# Altium integrated library Cypress PLD Delta39K.IntLib: 82 symbols (part 11 of 21)
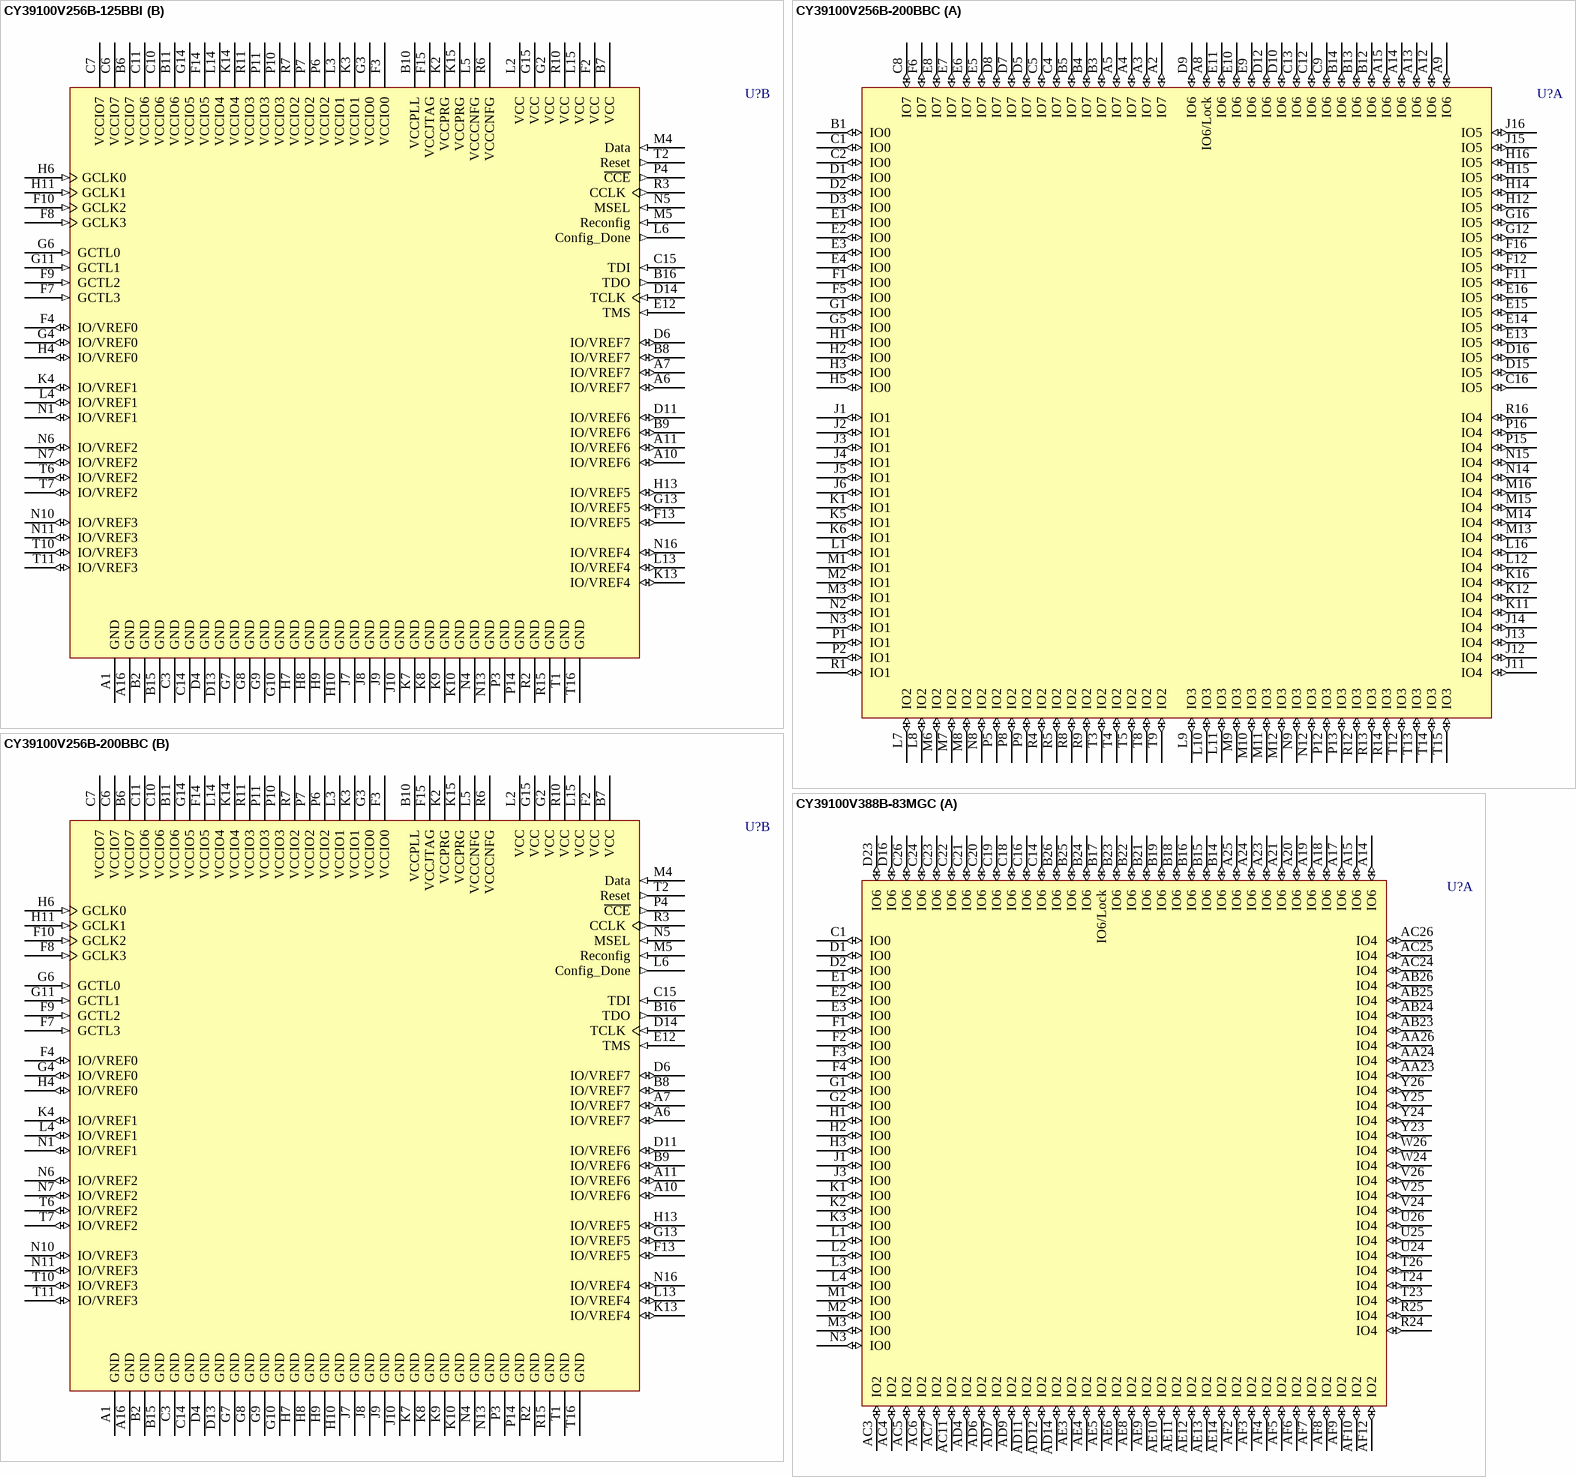
[diagram p88: symbols CY39100V256B-125BBI to CY39100V388B-83MGC]

## CY39100V256B-200BBC
designator U?
Delta39K ISR CPLD, 3.3V/2.5V, 100K Gates, 200 MHz, 256-Ball FBGA, Commercial Grade; Published: 6-Oct-2005; LatestRevisionDate: 13-Apr-2006; LatestRevisionNote: IPC-7351 Footprint Added.; DatasheetVersion: revI, Mar-2005; PackageVersion: revF, Oct-2003; PackageReference: BB256; Publisher: Altium Limited; PackageDescription: 256-Ball Fine Pitch Ball Grid Array 1 mm Pitch (37K & 39K CPLD Devices); Code_JEDEC: MO-192; ComponentLink1Description: Manufacturer Link; ComponentLink1URL: http://www.cypress.com/; ComponentLink2Description: Datasheet; ComponentLink2URL: http://www.cypress.com/portal/server.pt/gateway/PTARGS_0_601270_1522_209_0_43/http%3B/sjapp20.mis.cypress.com%3B7001/publishedcontent/publish/design_resources/datasheets/contents/cy39030v_5.pdf
footprint BB256 (BGA, 256-Leads, Body 17x17mm, Pitch 1mm)
3D model CY39100V256-BB256 (256-Ball Fine Pitch Ball Grid Array 1 mm Pitch (37K & 39K CPLD Devices))
part A pins: A2 IO7 (io), A3 IO7 (io), A4 IO7 (io), A5 IO7 (io), A8 IO6/Lock (io), A9 IO6 (io), A12 IO6 (io), A13 IO6 (io), A14 IO6 (io), A15 IO6 (io), B1 IO0 (io), B3 IO7 (io), B4 IO7 (io), B5 IO7 (io), B12 IO6 (io), B13 IO6 (io), B14 IO6 (io), C1 IO0 (io), C2 IO0 (io), C4 IO7 (io), C5 IO7 (io), C8 IO7 (io), C9 IO6 (io), C12 IO6 (io), C13 IO6 (io), C16 IO5 (io), D1 IO0 (io), D2 IO0 (io), D3 IO0 (io), D5 IO7 (io), D7 IO7 (io), D8 IO7 (io), D9 IO6 (io), D10 IO6 (io), D12 IO6 (io), D15 IO5 (io), D16 IO5 (io), E1 IO0 (io), E2 IO0 (io), E3 IO0 (io), E4 IO0 (io), E5 IO7 (io), E6 IO7 (io), E7 IO7 (io), E8 IO7 (io), E9 IO6 (io), E10 IO6 (io), E11 IO6 (io), E13 IO5 (io), E14 IO5 (io), E15 IO5 (io), E16 IO5 (io), F1 IO0 (io), F5 IO0 (io), F6 IO7 (io), F11 IO5 (io), F12 IO5 (io), F16 IO5 (io), G1 IO0 (io), G5 IO0 (io), G12 IO5 (io), G16 IO5 (io), H1 IO0 (io), H2 IO0 (io), H3 IO0 (io), H5 IO0 (io), H12 IO5 (io), H14 IO5 (io), H15 IO5 (io), H16 IO5 (io), J1 IO1 (io), J2 IO1 (io), J3 IO1 (io), J4 IO1 (io), J5 IO1 (io), J6 IO1 (io), J11 IO4 (io), J12 IO4 (io), J13 IO4 (io), J14 IO4 (io), J15 IO5 (io), J16 IO5 (io), K1 IO1 (io), K5 IO1 (io), K6 IO1 (io), K11 IO4 (io), K12 IO4 (io), K16 IO4 (io), L1 IO1 (io), L7 IO2 (io), L8 IO2 (io), L9 IO3 (io), L10 IO3 (io), L11 IO3 (io), L12 IO4 (io), L16 IO4 (io), M1 IO1 (io), M2 IO1 (io), M3 IO1 (io), M6 IO2 (io), M7 IO2 (io), M8 IO2 (io), M9 IO3 (io), M10 IO3 (io), M11 IO3 (io), M12 IO3 (io), M13 IO4 (io), M14 IO4 (io), M15 IO4 (io), M16 IO4 (io), N2 IO1 (io), N3 IO1 (io), N8 IO2 (io), N9 IO3 (io), N12 IO3 (io), N14 IO4 (io), N15 IO4 (io), P1 IO1 (io), P2 IO1 (io), P5 IO2 (io), P8 IO2 (io), P9 IO2 (io), P12 IO3 (io), P13 IO3 (io), P15 IO4 (io), P16 IO4 (io), R1 IO1 (io), R4 IO2 (io), R5 IO2 (io), R8 IO2 (io), R9 IO2 (io), R12 IO3 (io), R13 IO3 (io), R14 IO3 (io), R16 IO4 (io), T3 IO2 (io), T4 IO2 (io), T5 IO2 (io), T8 IO2 (io), T9 IO2 (io), T12 IO3 (io), T13 IO3 (io), T14 IO3 (io), T15 IO3 (io)
part B pins: A1 GND (power), A6 IO/VREF7 (io), A7 IO/VREF7 (io), A10 IO/VREF6 (io), A11 IO/VREF6 (io), A16 GND (power), B2 GND (power), B6 VCCIO7 (power), B7 VCC (power), B8 IO/VREF7 (io), B9 IO/VREF6 (io), B10 VCCPLL (power), B11 VCCIO6 (power), B15 GND (power), B16 TDO (out), C3 GND (power), C6 VCCIO7 (power), C7 VCCIO7 (power), C10 VCCIO6 (power), C11 VCCIO6 (power), C14 GND (power), C15 TDI (in), D4 GND (power), D6 IO/VREF7 (io), D11 IO/VREF6 (io), D13 GND (power), D14 TCLK (in), E12 TMS (in), F2 VCC (power), F3 VCCIO0 (power), F4 IO/VREF0 (io), F7 GCTL3 (in), F8 GCLK3 (in), F9 GCTL2 (in), F10 GCLK2 (in), F13 IO/VREF5 (io), F14 VCCIO5 (power), F15 VCCJTAG (power), G2 VCC (power), G3 VCCIO0 (power), G4 IO/VREF0 (io), G6 GCTL0 (in), G7 GND (power), G8 GND (power), G9 GND (power), G10 GND (power), G11 GCTL1 (in), G13 IO/VREF5 (io), G14 VCCIO5 (power), G15 VCC (power), H4 IO/VREF0 (io), H6 GCLK0 (in), H7 GND (power), H8 GND (power), H9 GND (power), H10 GND (power), H11 GCLK1 (in), H13 IO/VREF5 (io), J7 GND (power), J8 GND (power), J9 GND (power), J10 GND (power), K2 VCCPRG (power), K3 VCCIO1 (power), K4 IO/VREF1 (io), K7 GND (power), K8 GND (power), K9 GND (power), K10 GND (power), K13 IO/VREF4 (io), K14 VCCIO4 (power), K15 VCCPRG (power), L2 VCC (power), L3 VCCIO1 (power), L4 IO/VREF1 (io), L5 VCCCNFG (power), L6 Config_Done (out), L13 IO/VREF4 (io), L14 VCCIO4 (power), L15 VCC (power), M4 Data (in), M5 Reconfig (in), N1 IO/VREF1 (io), N4 GND (power), N5 MSEL (in), N6 IO/VREF2 (io), N7 IO/VREF2 (io), N10 IO/VREF3 (io), N11 IO/VREF3 (io), N13 GND (power), N16 IO/VREF4 (io), P3 GND (power), P4 ~{CCE} (out), P6 VCCIO2 (power), P7 VCCIO2 (power), P10 VCCIO3 (power), P11 VCCIO3 (power), P14 GND (power), R2 GND (power), R3 CCLK (out), R6 VCCCNFG (power), R7 VCCIO2 (power), R10 VCC (power), R11 VCCIO3 (power), R15 GND (power), T1 GND (power), T2 Reset (out), T6 IO/VREF2 (io), T7 IO/VREF2 (io), T10 IO/VREF3 (io), T11 IO/VREF3 (io), T16 GND (power)

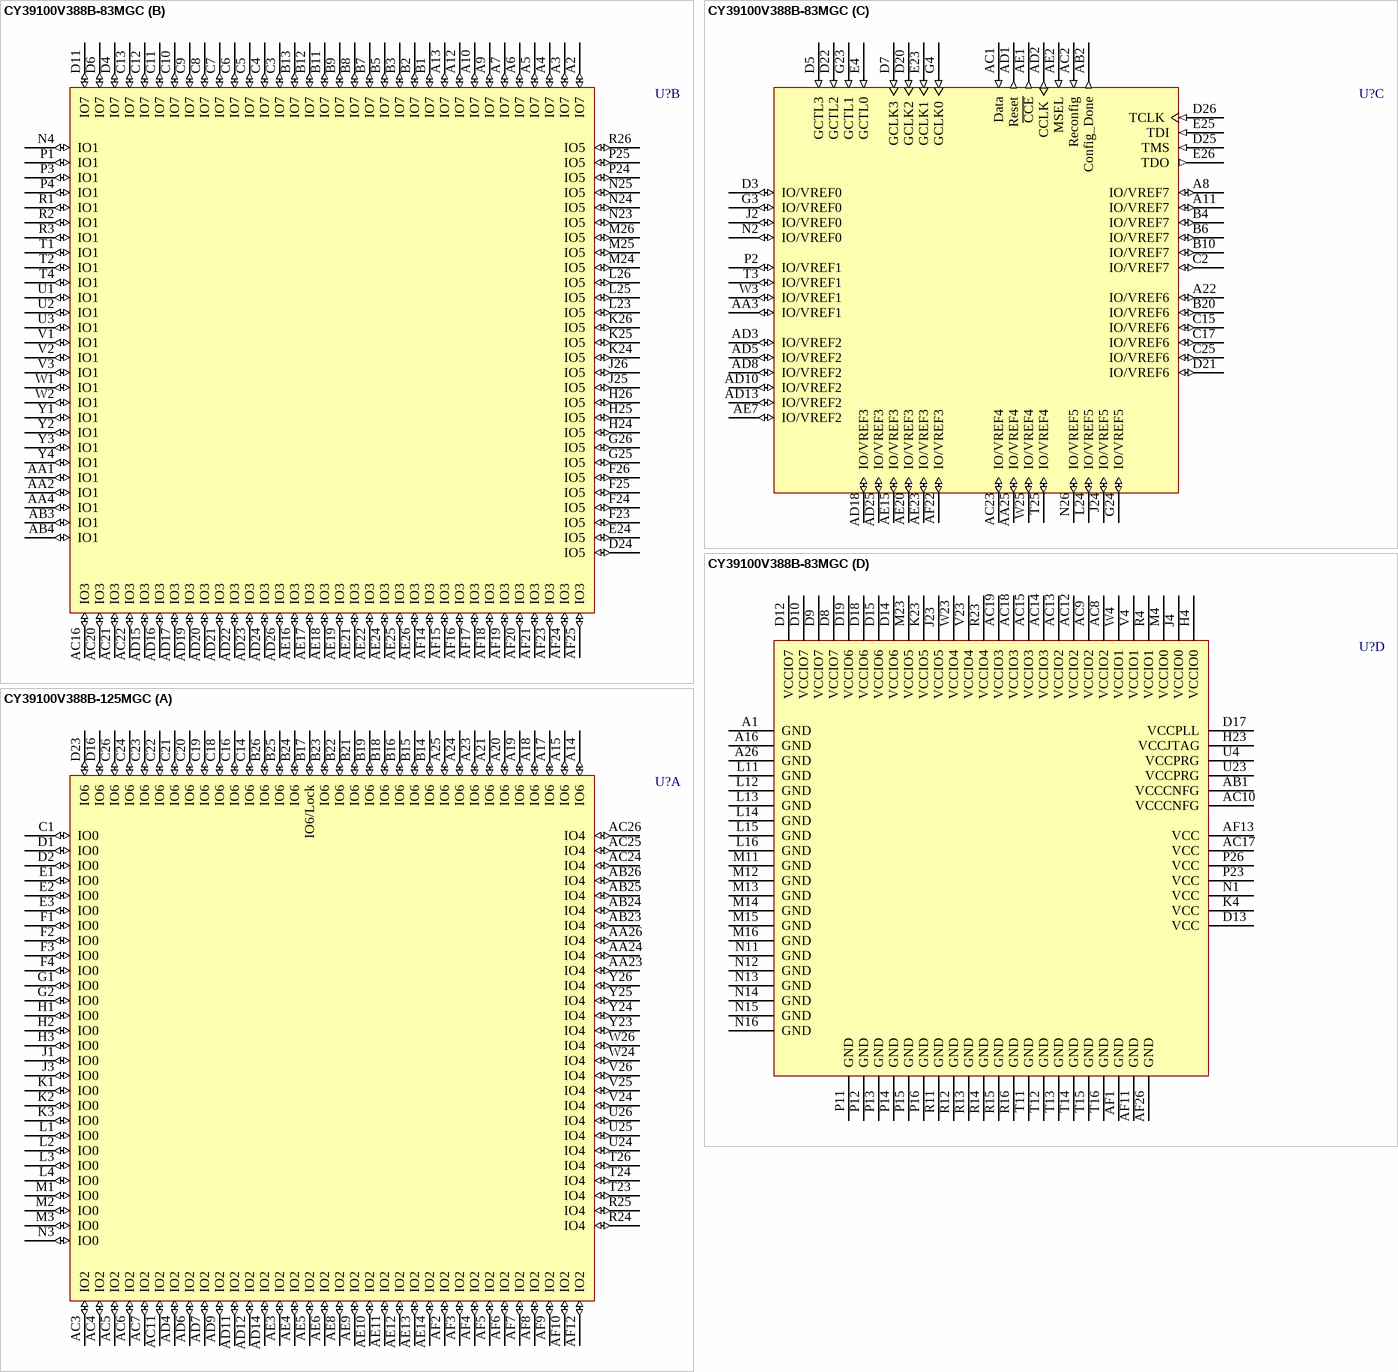
[diagram p32: symbols CY39100V388B-83MGC to CY39100V388B-125MGC]

## CY39100V388B-83MGC
designator U?
Delta39K ISR CPLD, 3.3V/2.5V, 100K Gates, 83 MHz, 388-Ball BGA, Commercial Grade; Published: 6-Oct-2005; LatestRevisionDate: 13-Apr-2006; LatestRevisionNote: IPC-7351 Footprint Added.; DatasheetVersion: revI, Mar-2005; PackageVersion: Mar-2005; PackageReference: MG388; Publisher: Altium Limited; PackageDescription: 388-Ball Ball Grid Array 1.27 mm Pitch; ComponentLink1Description: Manufacturer Link; ComponentLink1URL: http://www.cypress.com/; ComponentLink2Description: Datasheet; ComponentLink2URL: http://www.cypress.com/portal/server.pt/gateway/PTARGS_0_601270_1522_209_0_43/http%3B/sjapp20.mis.cypress.com%3B7001/publishedcontent/publish/design_resources/datasheets/contents/cy39030v_5.pdf
footprint MG388 (BGA, 388-Leads, Body 35x35mm, Pitch 1.27mm)
3D model CY39100V388-MG388 (388-Ball Ball Grid Array 1.27 mm Pitch)
part A pins: A14 IO6 (io) "IO for Bank 6", A15 IO6 (io) "IO for Bank 6", A17 IO6 (io) "IO for Bank 6", A18 IO6 (io) "IO for Bank 6", A19 IO6 (io) "IO for Bank 6", A20 IO6 (io) "IO for Bank 6", A21 IO6 (io) "IO for Bank 6", A23 IO6 (io) "IO for Bank 6", A24 IO6 (io) "IO for Bank 6", A25 IO6 (io) "IO for Bank 6", AA23 IO4 (io) "IO for Bank 4", AA24 IO4 (io) "IO for Bank 4", AA26 IO4 (io) "IO for Bank 4", AB23 IO4 (io) "IO for Bank 4", AB24 IO4 (io) "IO for Bank 4", AB25 IO4 (io) "IO for Bank 4", AB26 IO4 (io) "IO for Bank 4", AC3 IO2 (io) "IO for Bank 2", AC4 IO2 (io) "IO for Bank 2", AC5 IO2 (io) "IO for Bank 2", AC6 IO2 (io) "IO for Bank 2", AC7 IO2 (io) "IO for Bank 2", AC11 IO2 (io) "IO for Bank 2", AC24 IO4 (io) "IO for Bank 4", AC25 IO4 (io) "IO for Bank 4", AC26 IO4 (io) "IO for Bank 4", AD4 IO2 (io) "IO for Bank 2", AD6 IO2 (io) "IO for Bank 2", AD7 IO2 (io) "IO for Bank 2", AD9 IO2 (io) "IO for Bank 2", AD11 IO2 (io) "IO for Bank 2", AD12 IO2 (io) "IO for Bank 2", AD14 IO2 (io) "IO for Bank 2", AE3 IO2 (io) "IO for Bank 2", AE4 IO2 (io) "IO for Bank 2", AE5 IO2 (io) "IO for Bank 2", AE6 IO2 (io) "IO for Bank 2", AE8 IO2 (io) "IO for Bank 2", AE9 IO2 (io) "IO for Bank 2", AE10 IO2 (io) "IO for Bank 2", AE11 IO2 (io) "IO for Bank 2", AE12 IO2 (io) "IO for Bank 2", AE13 IO2 (io) "IO for Bank 2", AE14 IO2 (io) "IO for Bank 2", AF2 IO2 (io) "IO for Bank 2", AF3 IO2 (io) "IO for Bank 2", AF4 IO2 (io) "IO for Bank 2", AF5 IO2 (io) "IO for Bank 2", AF6 IO2 (io) "IO for Bank 2", AF7 IO2 (io) "IO for Bank 2", AF8 IO2 (io) "IO for Bank 2", AF9 IO2 (io) "IO for Bank 2", AF10 IO2 (io) "IO for Bank 2", AF12 IO2 (io) "IO for Bank 2", B14 IO6 (io) "IO for Bank 6", B15 IO6 (io) "IO for Bank 6", B16 IO6 (io) "IO for Bank 6", B17 IO6/Lock (io) "IO in Bank 6 or PLL lock output signal", B18 IO6 (io) "IO for Bank 6", B19 IO6 (io) "IO for Bank 6", B21 IO6 (io) "IO for Bank 6", B22 IO6 (io) "IO for Bank 6", B23 IO6 (io) "IO for Bank 6", B24 IO6 (io) "IO for Bank 6", B25 IO6 (io) "IO for Bank 6", B26 IO6 (io) "IO for Bank 6", C1 IO0 (io) "IO for Bank 0", C14 IO6 (io) "IO for Bank 6", C16 IO6 (io) "IO for Bank 6", C18 IO6 (io) "IO for Bank 6", C19 IO6 (io) "IO for Bank 6", C20 IO6 (io) "IO for Bank 6", C21 IO6 (io) "IO for Bank 6", C22 IO6 (io) "IO for Bank 6", C23 IO6 (io) "IO for Bank 6", C24 IO6 (io) "IO for Bank 6", C26 IO6 (io) "IO for Bank 6", D1 IO0 (io) "IO for Bank 0", D2 IO0 (io) "IO for Bank 0", D16 IO6 (io) "IO for Bank 6", D23 IO6 (io) "IO for Bank 6", E1 IO0 (io) "IO for Bank 0", E2 IO0 (io) "IO for Bank 0", E3 IO0 (io) "IO for Bank 0", F1 IO0 (io) "IO for Bank 0", F2 IO0 (io) "IO for Bank 0", F3 IO0 (io) "IO for Bank 0", F4 IO0 (io) "IO for Bank 0", G1 IO0 (io) "IO for Bank 0", G2 IO0 (io) "IO for Bank 0", H1 IO0 (io) "IO for Bank 0", H2 IO0 (io) "IO for Bank 0", H3 IO0 (io) "IO for Bank 0", J1 IO0 (io) "IO for Bank 0", J3 IO0 (io) "IO for Bank 0", K1 IO0 (io) "IO for Bank 0", K2 IO0 (io) "IO for Bank 0", K3 IO0 (io) "IO for Bank 0", L1 IO0 (io) "IO for Bank 0", L2 IO0 (io) "IO for Bank 0", L3 IO0 (io) "IO for Bank 0", L4 IO0 (io) "IO for Bank 0", M1 IO0 (io) "IO for Bank 0", M2 IO0 (io) "IO for Bank 0", M3 IO0 (io) "IO for Bank 0", N3 IO0 (io) "IO for Bank 0", R24 IO4 (io) "IO for Bank 4", R25 IO4 (io) "IO for Bank 4", T23 IO4 (io) "IO for Bank 4", T24 IO4 (io) "IO for Bank 4", T26 IO4 (io) "IO for Bank 4", U24 IO4 (io) "IO for Bank 4", U25 IO4 (io) "IO for Bank 4", U26 IO4 (io) "IO for Bank 4", V24 IO4 (io) "IO for Bank 4", V25 IO4 (io) "IO for Bank 4", V26 IO4 (io) "IO for Bank 4", W24 IO4 (io) "IO for Bank 4", W26 IO4 (io) "IO for Bank 4", Y23 IO4 (io) "IO for Bank 4", Y24 IO4 (io) "IO for Bank 4", Y25 IO4 (io) "IO for Bank 4", Y26 IO4 (io) "IO for Bank 4"
part B pins: A2 IO7 (io) "IO for Bank 7", A3 IO7 (io) "IO for Bank 7", A4 IO7 (io) "IO for Bank 7", A5 IO7 (io) "IO for Bank 7", A6 IO7 (io) "IO for Bank 7", A7 IO7 (io) "IO for Bank 7", A9 IO7 (io) "IO for Bank 7", A10 IO7 (io) "IO for Bank 7", A12 IO7 (io) "IO for Bank 7", A13 IO7 (io) "IO for Bank 7", AA1 IO1 (io) "IO for Bank 1", AA2 IO1 (io) "IO for Bank 1", AA4 IO1 (io) "IO for Bank 1", AB3 IO1 (io) "IO for Bank 1", AB4 IO1 (io) "IO for Bank 1", AC16 IO3 (io) "IO for Bank 3", AC20 IO3 (io) "IO for Bank 3", AC21 IO3 (io) "IO for Bank 3", AC22 IO3 (io) "IO for Bank 3", AD15 IO3 (io) "IO for Bank 3", AD16 IO3 (io) "IO for Bank 3", AD17 IO3 (io) "IO for Bank 3", AD19 IO3 (io) "IO for Bank 3", AD20 IO3 (io) "IO for Bank 3", AD21 IO3 (io) "IO for Bank 3", AD22 IO3 (io) "IO for Bank 3", AD23 IO3 (io) "IO for Bank 3", AD24 IO3 (io) "IO for Bank 3", AD26 IO3 (io) "IO for Bank 3", AE16 IO3 (io) "IO for Bank 3", AE17 IO3 (io) "IO for Bank 3", AE18 IO3 (io) "IO for Bank 3", AE19 IO3 (io) "IO for Bank 3", AE21 IO3 (io) "IO for Bank 3", AE22 IO3 (io) "IO for Bank 3", AE24 IO3 (io) "IO for Bank 3", AE25 IO3 (io) "IO for Bank 3", AE26 IO3 (io) "IO for Bank 3", AF14 IO3 (io) "IO for Bank 3", AF15 IO3 (io) "IO for Bank 3", AF16 IO3 (io) "IO for Bank 3", AF17 IO3 (io) "IO for Bank 3", AF18 IO3 (io) "IO for Bank 3", AF19 IO3 (io) "IO for Bank 3", AF20 IO3 (io) "IO for Bank 3", AF21 IO3 (io) "IO for Bank 3", AF23 IO3 (io) "IO for Bank 3", AF24 IO3 (io) "IO for Bank 3", AF25 IO3 (io) "IO for Bank 3", B1 IO7 (io) "IO for Bank 7", B2 IO7 (io) "IO for Bank 7", B3 IO7 (io) "IO for Bank 7", B5 IO7 (io) "IO for Bank 7", B7 IO7 (io) "IO for Bank 7", B8 IO7 (io) "IO for Bank 7", B9 IO7 (io) "IO for Bank 7", B11 IO7 (io) "IO for Bank 7", B12 IO7 (io) "IO for Bank 7", B13 IO7 (io) "IO for Bank 7", C3 IO7 (io) "IO for Bank 7", C4 IO7 (io) "IO for Bank 7", C5 IO7 (io) "IO for Bank 7", C6 IO7 (io) "IO for Bank 7", C7 IO7 (io) "IO for Bank 7", C8 IO7 (io) "IO for Bank 7", C9 IO7 (io) "IO for Bank 7", C10 IO7 (io) "IO for Bank 7", C11 IO7 (io) "IO for Bank 7", C12 IO7 (io) "IO for Bank 7", C13 IO7 (io) "IO for Bank 7", D4 IO7 (io) "IO for Bank 7", D6 IO7 (io) "IO for Bank 7", D11 IO7 (io) "IO for Bank 7", D24 IO5 (io) "IO for Bank 5", E24 IO5 (io) "IO for Bank 5", F23 IO5 (io) "IO for Bank 5", F24 IO5 (io) "IO for Bank 5", F25 IO5 (io) "IO for Bank 5", F26 IO5 (io) "IO for Bank 5", G25 IO5 (io) "IO for Bank 5", G26 IO5 (io) "IO for Bank 5", H24 IO5 (io) "IO for Bank 5", H25 IO5 (io) "IO for Bank 5", H26 IO5 (io) "IO for Bank 5", J25 IO5 (io) "IO for Bank 5", J26 IO5 (io) "IO for Bank 5", K24 IO5 (io) "IO for Bank 5", K25 IO5 (io) "IO for Bank 5", K26 IO5 (io) "IO for Bank 5", L23 IO5 (io) "IO for Bank 5", L25 IO5 (io) "IO for Bank 5", L26 IO5 (io) "IO for Bank 5", M24 IO5 (io) "IO for Bank 5", M25 IO5 (io) "IO for Bank 5", M26 IO5 (io) "IO for Bank 5", N4 IO1 (io) "IO for Bank 1", N23 IO5 (io) "IO for Bank 5", N24 IO5 (io) "IO for Bank 5", N25 IO5 (io) "IO for Bank 5", P1 IO1 (io) "IO for Bank 1", P3 IO1 (io) "IO for Bank 1", P4 IO1 (io) "IO for Bank 1", P24 IO5 (io) "IO for Bank 5", P25 IO5 (io) "IO for Bank 5", R1 IO1 (io) "IO for Bank 1", R2 IO1 (io) "IO for Bank 1", R3 IO1 (io) "IO for Bank 1", R26 IO5 (io) "IO for Bank 5", T1 IO1 (io) "IO for Bank 1", T2 IO1 (io) "IO for Bank 1", T4 IO1 (io) "IO for Bank 1", U1 IO1 (io) "IO for Bank 1", U2 IO1 (io) "IO for Bank 1", U3 IO1 (io) "IO for Bank 1", V1 IO1 (io) "IO for Bank 1", V2 IO1 (io) "IO for Bank 1", V3 IO1 (io) "IO for Bank 1", W1 IO1 (io) "IO for Bank 1", W2 IO1 (io) "IO for Bank 1", Y1 IO1 (io) "IO for Bank 1", Y2 IO1 (io) "IO for Bank 1", Y3 IO1 (io) "IO for Bank 1", Y4 IO1 (io) "IO for Bank 1"
part C pins: A8 IO/VREF7 (io) "IO or Reference Voltage for Bank 7", A11 IO/VREF7 (io) "IO or Reference Voltage for Bank 7", A22 IO/VREF6 (io) "IO or Reference Voltage for Bank 6", AA3 IO/VREF1 (io) "IO or Reference Voltage for Bank 1", AA25 IO/VREF4 (io) "IO or Reference Voltage for Bank 4", AB2 Config_Done (out) "Flag indicating that configuration is complete", AC1 Data (in) "Pin to receive configuration data from the external boot PROM", AC2 Reconfig (in) "Pin to start configuration of Delta39K", AC23 IO/VREF4 (io) "IO or Reference Voltage for Bank 4", AD1 Reset (out) "Reset signal to interface with the external boot PROM", AD2 CCLK (out) "Configuration Clock for serial interface with the external boot PROM", AD3 IO/VREF2 (io) "IO or Reference Voltage for Bank 2", AD5 IO/VREF2 (io) "IO or Reference Voltage for Bank 2", AD8 IO/VREF2 (io) "IO or Reference Voltage for Bank 2", AD10 IO/VREF2 (io) "IO or Reference Voltage for Bank 2", AD13 IO/VREF2 (io) "IO or Reference Voltage for Bank 2", AD18 IO/VREF3 (io) "IO or Reference Voltage for Bank 3", AD25 IO/VREF3 (io) "IO or Reference Voltage for Bank 3", AE1 ~{CCE} (out) "Chip select for the external boot PROM (active low)", AE2 MSEL (in) "Mode Select Pin", AE7 IO/VREF2 (io) "IO or Reference Voltage for Bank 2", AE15 IO/VREF3 (io) "IO or Reference Voltage for Bank 3", AE20 IO/VREF3 (io) "IO or Reference Voltage for Bank 3", AE23 IO/VREF3 (io) "IO or Reference Voltage for Bank 3", AF22 IO/VREF3 (io) "IO or Reference Voltage for Bank 3", B4 IO/VREF7 (io) "IO or Reference Voltage for Bank 7", B6 IO/VREF7 (io) "IO or Reference Voltage for Bank 7", B10 IO/VREF7 (io) "IO or Reference Voltage for Bank 7", B20 IO/VREF6 (io) "IO or Reference Voltage for Bank 6", C2 IO/VREF7 (io) "IO or Reference Voltage for Bank 7", C15 IO/VREF6 (io) "IO or Reference Voltage for Bank 6", C17 IO/VREF6 (io) "IO or Reference Voltage for Bank 6", C25 IO/VREF6 (io) "IO or Reference Voltage for Bank 6", D3 IO/VREF0 (io) "IO or Reference Voltage for Bank 0", D5 GCTL3 (in) "Global Control signal 3", D7 GCLK3 (in) "Global Clock signal 3", D20 GCLK2 (in) "Global Clock signal 2", D21 IO/VREF6 (io) "IO or Reference Voltage for Bank 6", D22 GCTL2 (in) "Global Control signal 2", D25 TMS (in) "JTAG Test Mode Select", D26 TCLK (in) "JTAG Test Clock", E4 GCTL0 (in) "Global Control signal 0", E23 GCLK1 (in) "Global Clock signal 1", E25 TDI (in) "JTAG Test Data In", E26 TDO (out) "JTAG Test Data Out", G3 IO/VREF0 (io) "IO or Reference Voltage for Bank 0", G4 GCLK0 (in) "Global Clock signal 0", G23 GCTL1 (in) "Global Control signal 1", G24 IO/VREF5 (io) "IO or Reference Voltage for Bank 5", J2 IO/VREF0 (io) "IO or Reference Voltage for Bank 0", J24 IO/VREF5 (io) "IO or Reference Voltage for Bank 5", L24 IO/VREF5 (io) "IO or Reference Voltage for Bank 5", N2 IO/VREF0 (io) "IO or Reference Voltage for Bank 0", N26 IO/VREF5 (io) "IO or Reference Voltage for Bank 5", P2 IO/VREF1 (io) "IO or Reference Voltage for Bank 1", T3 IO/VREF1 (io) "IO or Reference Voltage for Bank 1", T25 IO/VREF4 (io) "IO or Reference Voltage for Bank 4", W3 IO/VREF1 (io) "IO or Reference Voltage for Bank 1", W25 IO/VREF4 (io) "IO or Reference Voltage for Bank 4"
part D pins: A1 GND (power) "Ground", A16 GND (power) "Ground", A26 GND (power) "Ground", AB1 VCCCNFG (power) "VCC for Configuration port", AC8 VCCIO2 (power) "VCC for I/O bank 2", AC9 VCCIO2 (power) "VCC for I/O bank 2", AC10 VCCCNFG (power) "VCC for Configuration port", AC12 VCCIO2 (power) "VCC for I/O bank 2", AC13 VCCIO2 (power) "VCC for I/O bank 2", AC14 VCCIO3 (power) "VCC for I/O bank 3", AC15 VCCIO3 (power) "VCC for I/O bank 3", AC17 VCC (power) "Operating Voltage", AC18 VCCIO3 (power) "VCC for I/O bank 3", AC19 VCCIO3 (power) "VCC for I/O bank 3", AF1 GND (power) "Ground", AF11 GND (power) "Ground", AF13 VCC (power) "Operating Voltage", AF26 GND (power) "Ground", D8 VCCIO7 (power) "VCC for I/O bank 7", D9 VCCIO7 (power) "VCC for I/O bank 7", D10 VCCIO7 (power) "VCC for I/O bank 7", D12 VCCIO7 (power) "VCC for I/O bank 7", D13 VCC (power) "Operating Voltage", D14 VCCIO6 (power) "VCC for I/O bank 6", D15 VCCIO6 (power) "VCC for I/O bank 6", D17 VCCPLL (power) "VCC for PLL", D18 VCCIO6 (power) "VCC for I/O bank 6", D19 VCCIO6 (power) "VCC for I/O bank 6", H4 VCCIO0 (power) "VCC for I/O bank 0", H23 VCCJTAG (power) "VCC for JTAG pins", J4 VCCIO0 (power) "VCC for I/O bank 0", J23 VCCIO5 (power) "VCC for I/O bank 5", K4 VCC (power) "Operating Voltage", K23 VCCIO5 (power) "VCC for I/O bank 5", L11 GND (power) "Ground", L12 GND (power) "Ground", L13 GND (power) "Ground", L14 GND (power) "Ground", L15 GND (power) "Ground", L16 GND (power) "Ground", M4 VCCIO0 (power) "VCC for I/O bank 0", M11 GND (power) "Ground", M12 GND (power) "Ground", M13 GND (power) "Ground", M14 GND (power) "Ground", M15 GND (power) "Ground", M16 GND (power) "Ground", M23 VCCIO5 (power) "VCC for I/O bank 5", N1 VCC (power) "Operating Voltage", N11 GND (power) "Ground", N12 GND (power) "Ground", N13 GND (power) "Ground", N14 GND (power) "Ground", N15 GND (power) "Ground", N16 GND (power) "Ground", P11 GND (power) "Ground", P12 GND (power) "Ground", P13 GND (power) "Ground", P14 GND (power) "Ground", P15 GND (power) "Ground", P16 GND (power) "Ground", P23 VCC (power) "Operating Voltage", P26 VCC (power) "Operating Voltage", R4 VCCIO1 (power) "VCC for I/O bank 1", R11 GND (power) "Ground", R12 GND (power) "Ground", R13 GND (power) "Ground", R14 GND (power) "Ground", R15 GND (power) "Ground", R16 GND (power) "Ground", R23 VCCIO4 (power) "VCC for I/O bank 4", T11 GND (power) "Ground", T12 GND (power) "Ground", T13 GND (power) "Ground", T14 GND (power) "Ground", T15 GND (power) "Ground", T16 GND (power) "Ground", U4 VCCPRG (power) "VCC for programming Self-Boot solution embedded boot PROM", U23 VCCPRG (power) "VCC for programming Self-Boot solution embedded boot PROM", V4 VCCIO1 (power) "VCC for I/O bank 1", V23 VCCIO4 (power) "VCC for I/O bank 4", W4 VCCIO1 (power) "VCC for I/O bank 1", W23 VCCIO4 (power) "VCC for I/O bank 4"

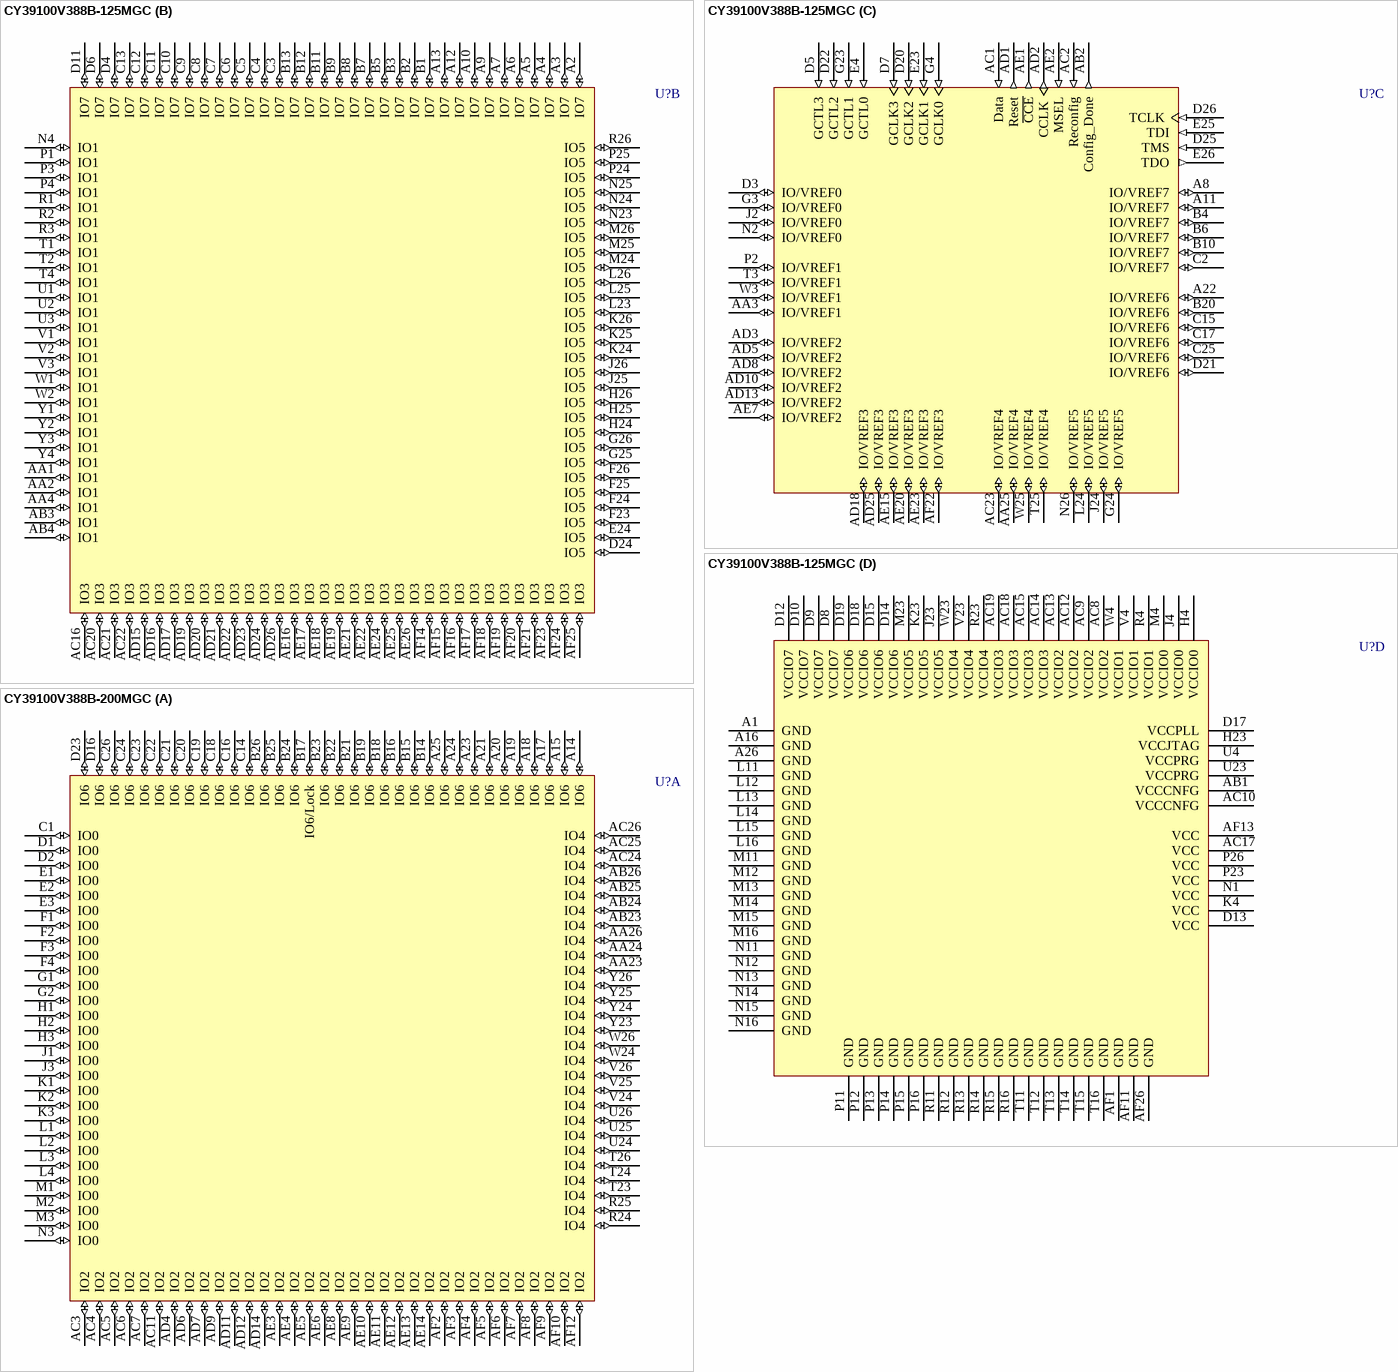
[diagram p33: symbols CY39100V388B-125MGC to CY39100V388B-200MGC]

## CY39100V388B-125MGC
designator U?
Delta39K ISR CPLD, 3.3V/2.5V, 100K Gates, 125 MHz, 388-Ball BGA, Commercial Grade; Published: 6-Oct-2005; LatestRevisionDate: 13-Apr-2006; LatestRevisionNote: IPC-7351 Footprint Added.; DatasheetVersion: revI, Mar-2005; PackageVersion: Mar-2005; PackageReference: MG388; Publisher: Altium Limited; PackageDescription: 388-Ball Ball Grid Array 1.27 mm Pitch; ComponentLink1Description: Manufacturer Link; ComponentLink1URL: http://www.cypress.com/; ComponentLink2Description: Datasheet; ComponentLink2URL: http://www.cypress.com/portal/server.pt/gateway/PTARGS_0_601270_1522_209_0_43/http%3B/sjapp20.mis.cypress.com%3B7001/publishedcontent/publish/design_resources/datasheets/contents/cy39030v_5.pdf
footprint MG388 (BGA, 388-Leads, Body 35x35mm, Pitch 1.27mm)
3D model CY39100V388-MG388 (388-Ball Ball Grid Array 1.27 mm Pitch)
part A pins: A14 IO6 (io) "IO for Bank 6", A15 IO6 (io) "IO for Bank 6", A17 IO6 (io) "IO for Bank 6", A18 IO6 (io) "IO for Bank 6", A19 IO6 (io) "IO for Bank 6", A20 IO6 (io) "IO for Bank 6", A21 IO6 (io) "IO for Bank 6", A23 IO6 (io) "IO for Bank 6", A24 IO6 (io) "IO for Bank 6", A25 IO6 (io) "IO for Bank 6", AA23 IO4 (io) "IO for Bank 4", AA24 IO4 (io) "IO for Bank 4", AA26 IO4 (io) "IO for Bank 4", AB23 IO4 (io) "IO for Bank 4", AB24 IO4 (io) "IO for Bank 4", AB25 IO4 (io) "IO for Bank 4", AB26 IO4 (io) "IO for Bank 4", AC3 IO2 (io) "IO for Bank 2", AC4 IO2 (io) "IO for Bank 2", AC5 IO2 (io) "IO for Bank 2", AC6 IO2 (io) "IO for Bank 2", AC7 IO2 (io) "IO for Bank 2", AC11 IO2 (io) "IO for Bank 2", AC24 IO4 (io) "IO for Bank 4", AC25 IO4 (io) "IO for Bank 4", AC26 IO4 (io) "IO for Bank 4", AD4 IO2 (io) "IO for Bank 2", AD6 IO2 (io) "IO for Bank 2", AD7 IO2 (io) "IO for Bank 2", AD9 IO2 (io) "IO for Bank 2", AD11 IO2 (io) "IO for Bank 2", AD12 IO2 (io) "IO for Bank 2", AD14 IO2 (io) "IO for Bank 2", AE3 IO2 (io) "IO for Bank 2", AE4 IO2 (io) "IO for Bank 2", AE5 IO2 (io) "IO for Bank 2", AE6 IO2 (io) "IO for Bank 2", AE8 IO2 (io) "IO for Bank 2", AE9 IO2 (io) "IO for Bank 2", AE10 IO2 (io) "IO for Bank 2", AE11 IO2 (io) "IO for Bank 2", AE12 IO2 (io) "IO for Bank 2", AE13 IO2 (io) "IO for Bank 2", AE14 IO2 (io) "IO for Bank 2", AF2 IO2 (io) "IO for Bank 2", AF3 IO2 (io) "IO for Bank 2", AF4 IO2 (io) "IO for Bank 2", AF5 IO2 (io) "IO for Bank 2", AF6 IO2 (io) "IO for Bank 2", AF7 IO2 (io) "IO for Bank 2", AF8 IO2 (io) "IO for Bank 2", AF9 IO2 (io) "IO for Bank 2", AF10 IO2 (io) "IO for Bank 2", AF12 IO2 (io) "IO for Bank 2", B14 IO6 (io) "IO for Bank 6", B15 IO6 (io) "IO for Bank 6", B16 IO6 (io) "IO for Bank 6", B17 IO6/Lock (io) "IO in Bank 6 or PLL lock output signal", B18 IO6 (io) "IO for Bank 6", B19 IO6 (io) "IO for Bank 6", B21 IO6 (io) "IO for Bank 6", B22 IO6 (io) "IO for Bank 6", B23 IO6 (io) "IO for Bank 6", B24 IO6 (io) "IO for Bank 6", B25 IO6 (io) "IO for Bank 6", B26 IO6 (io) "IO for Bank 6", C1 IO0 (io) "IO for Bank 0", C14 IO6 (io) "IO for Bank 6", C16 IO6 (io) "IO for Bank 6", C18 IO6 (io) "IO for Bank 6", C19 IO6 (io) "IO for Bank 6", C20 IO6 (io) "IO for Bank 6", C21 IO6 (io) "IO for Bank 6", C22 IO6 (io) "IO for Bank 6", C23 IO6 (io) "IO for Bank 6", C24 IO6 (io) "IO for Bank 6", C26 IO6 (io) "IO for Bank 6", D1 IO0 (io) "IO for Bank 0", D2 IO0 (io) "IO for Bank 0", D16 IO6 (io) "IO for Bank 6", D23 IO6 (io) "IO for Bank 6", E1 IO0 (io) "IO for Bank 0", E2 IO0 (io) "IO for Bank 0", E3 IO0 (io) "IO for Bank 0", F1 IO0 (io) "IO for Bank 0", F2 IO0 (io) "IO for Bank 0", F3 IO0 (io) "IO for Bank 0", F4 IO0 (io) "IO for Bank 0", G1 IO0 (io) "IO for Bank 0", G2 IO0 (io) "IO for Bank 0", H1 IO0 (io) "IO for Bank 0", H2 IO0 (io) "IO for Bank 0", H3 IO0 (io) "IO for Bank 0", J1 IO0 (io) "IO for Bank 0", J3 IO0 (io) "IO for Bank 0", K1 IO0 (io) "IO for Bank 0", K2 IO0 (io) "IO for Bank 0", K3 IO0 (io) "IO for Bank 0", L1 IO0 (io) "IO for Bank 0", L2 IO0 (io) "IO for Bank 0", L3 IO0 (io) "IO for Bank 0", L4 IO0 (io) "IO for Bank 0", M1 IO0 (io) "IO for Bank 0", M2 IO0 (io) "IO for Bank 0", M3 IO0 (io) "IO for Bank 0", N3 IO0 (io) "IO for Bank 0", R24 IO4 (io) "IO for Bank 4", R25 IO4 (io) "IO for Bank 4", T23 IO4 (io) "IO for Bank 4", T24 IO4 (io) "IO for Bank 4", T26 IO4 (io) "IO for Bank 4", U24 IO4 (io) "IO for Bank 4", U25 IO4 (io) "IO for Bank 4", U26 IO4 (io) "IO for Bank 4", V24 IO4 (io) "IO for Bank 4", V25 IO4 (io) "IO for Bank 4", V26 IO4 (io) "IO for Bank 4", W24 IO4 (io) "IO for Bank 4", W26 IO4 (io) "IO for Bank 4", Y23 IO4 (io) "IO for Bank 4", Y24 IO4 (io) "IO for Bank 4", Y25 IO4 (io) "IO for Bank 4", Y26 IO4 (io) "IO for Bank 4"
part B pins: A2 IO7 (io) "IO for Bank 7", A3 IO7 (io) "IO for Bank 7", A4 IO7 (io) "IO for Bank 7", A5 IO7 (io) "IO for Bank 7", A6 IO7 (io) "IO for Bank 7", A7 IO7 (io) "IO for Bank 7", A9 IO7 (io) "IO for Bank 7", A10 IO7 (io) "IO for Bank 7", A12 IO7 (io) "IO for Bank 7", A13 IO7 (io) "IO for Bank 7", AA1 IO1 (io) "IO for Bank 1", AA2 IO1 (io) "IO for Bank 1", AA4 IO1 (io) "IO for Bank 1", AB3 IO1 (io) "IO for Bank 1", AB4 IO1 (io) "IO for Bank 1", AC16 IO3 (io) "IO for Bank 3", AC20 IO3 (io) "IO for Bank 3", AC21 IO3 (io) "IO for Bank 3", AC22 IO3 (io) "IO for Bank 3", AD15 IO3 (io) "IO for Bank 3", AD16 IO3 (io) "IO for Bank 3", AD17 IO3 (io) "IO for Bank 3", AD19 IO3 (io) "IO for Bank 3", AD20 IO3 (io) "IO for Bank 3", AD21 IO3 (io) "IO for Bank 3", AD22 IO3 (io) "IO for Bank 3", AD23 IO3 (io) "IO for Bank 3", AD24 IO3 (io) "IO for Bank 3", AD26 IO3 (io) "IO for Bank 3", AE16 IO3 (io) "IO for Bank 3", AE17 IO3 (io) "IO for Bank 3", AE18 IO3 (io) "IO for Bank 3", AE19 IO3 (io) "IO for Bank 3", AE21 IO3 (io) "IO for Bank 3", AE22 IO3 (io) "IO for Bank 3", AE24 IO3 (io) "IO for Bank 3", AE25 IO3 (io) "IO for Bank 3", AE26 IO3 (io) "IO for Bank 3", AF14 IO3 (io) "IO for Bank 3", AF15 IO3 (io) "IO for Bank 3", AF16 IO3 (io) "IO for Bank 3", AF17 IO3 (io) "IO for Bank 3", AF18 IO3 (io) "IO for Bank 3", AF19 IO3 (io) "IO for Bank 3", AF20 IO3 (io) "IO for Bank 3", AF21 IO3 (io) "IO for Bank 3", AF23 IO3 (io) "IO for Bank 3", AF24 IO3 (io) "IO for Bank 3", AF25 IO3 (io) "IO for Bank 3", B1 IO7 (io) "IO for Bank 7", B2 IO7 (io) "IO for Bank 7", B3 IO7 (io) "IO for Bank 7", B5 IO7 (io) "IO for Bank 7", B7 IO7 (io) "IO for Bank 7", B8 IO7 (io) "IO for Bank 7", B9 IO7 (io) "IO for Bank 7", B11 IO7 (io) "IO for Bank 7", B12 IO7 (io) "IO for Bank 7", B13 IO7 (io) "IO for Bank 7", C3 IO7 (io) "IO for Bank 7", C4 IO7 (io) "IO for Bank 7", C5 IO7 (io) "IO for Bank 7", C6 IO7 (io) "IO for Bank 7", C7 IO7 (io) "IO for Bank 7", C8 IO7 (io) "IO for Bank 7", C9 IO7 (io) "IO for Bank 7", C10 IO7 (io) "IO for Bank 7", C11 IO7 (io) "IO for Bank 7", C12 IO7 (io) "IO for Bank 7", C13 IO7 (io) "IO for Bank 7", D4 IO7 (io) "IO for Bank 7", D6 IO7 (io) "IO for Bank 7", D11 IO7 (io) "IO for Bank 7", D24 IO5 (io) "IO for Bank 5", E24 IO5 (io) "IO for Bank 5", F23 IO5 (io) "IO for Bank 5", F24 IO5 (io) "IO for Bank 5", F25 IO5 (io) "IO for Bank 5", F26 IO5 (io) "IO for Bank 5", G25 IO5 (io) "IO for Bank 5", G26 IO5 (io) "IO for Bank 5", H24 IO5 (io) "IO for Bank 5", H25 IO5 (io) "IO for Bank 5", H26 IO5 (io) "IO for Bank 5", J25 IO5 (io) "IO for Bank 5", J26 IO5 (io) "IO for Bank 5", K24 IO5 (io) "IO for Bank 5", K25 IO5 (io) "IO for Bank 5", K26 IO5 (io) "IO for Bank 5", L23 IO5 (io) "IO for Bank 5", L25 IO5 (io) "IO for Bank 5", L26 IO5 (io) "IO for Bank 5", M24 IO5 (io) "IO for Bank 5", M25 IO5 (io) "IO for Bank 5", M26 IO5 (io) "IO for Bank 5", N4 IO1 (io) "IO for Bank 1", N23 IO5 (io) "IO for Bank 5", N24 IO5 (io) "IO for Bank 5", N25 IO5 (io) "IO for Bank 5", P1 IO1 (io) "IO for Bank 1", P3 IO1 (io) "IO for Bank 1", P4 IO1 (io) "IO for Bank 1", P24 IO5 (io) "IO for Bank 5", P25 IO5 (io) "IO for Bank 5", R1 IO1 (io) "IO for Bank 1", R2 IO1 (io) "IO for Bank 1", R3 IO1 (io) "IO for Bank 1", R26 IO5 (io) "IO for Bank 5", T1 IO1 (io) "IO for Bank 1", T2 IO1 (io) "IO for Bank 1", T4 IO1 (io) "IO for Bank 1", U1 IO1 (io) "IO for Bank 1", U2 IO1 (io) "IO for Bank 1", U3 IO1 (io) "IO for Bank 1", V1 IO1 (io) "IO for Bank 1", V2 IO1 (io) "IO for Bank 1", V3 IO1 (io) "IO for Bank 1", W1 IO1 (io) "IO for Bank 1", W2 IO1 (io) "IO for Bank 1", Y1 IO1 (io) "IO for Bank 1", Y2 IO1 (io) "IO for Bank 1", Y3 IO1 (io) "IO for Bank 1", Y4 IO1 (io) "IO for Bank 1"
part C pins: A8 IO/VREF7 (io) "IO or Reference Voltage for Bank 7", A11 IO/VREF7 (io) "IO or Reference Voltage for Bank 7", A22 IO/VREF6 (io) "IO or Reference Voltage for Bank 6", AA3 IO/VREF1 (io) "IO or Reference Voltage for Bank 1", AA25 IO/VREF4 (io) "IO or Reference Voltage for Bank 4", AB2 Config_Done (out) "Flag indicating that configuration is complete", AC1 Data (in) "Pin to receive configuration data from the external boot PROM", AC2 Reconfig (in) "Pin to start configuration of Delta39K", AC23 IO/VREF4 (io) "IO or Reference Voltage for Bank 4", AD1 Reset (out) "Reset signal to interface with the external boot PROM", AD2 CCLK (out) "Configuration Clock for serial interface with the external boot PROM", AD3 IO/VREF2 (io) "IO or Reference Voltage for Bank 2", AD5 IO/VREF2 (io) "IO or Reference Voltage for Bank 2", AD8 IO/VREF2 (io) "IO or Reference Voltage for Bank 2", AD10 IO/VREF2 (io) "IO or Reference Voltage for Bank 2", AD13 IO/VREF2 (io) "IO or Reference Voltage for Bank 2", AD18 IO/VREF3 (io) "IO or Reference Voltage for Bank 3", AD25 IO/VREF3 (io) "IO or Reference Voltage for Bank 3", AE1 ~{CCE} (out) "Chip select for the external boot PROM (active low)", AE2 MSEL (in) "Mode Select Pin", AE7 IO/VREF2 (io) "IO or Reference Voltage for Bank 2", AE15 IO/VREF3 (io) "IO or Reference Voltage for Bank 3", AE20 IO/VREF3 (io) "IO or Reference Voltage for Bank 3", AE23 IO/VREF3 (io) "IO or Reference Voltage for Bank 3", AF22 IO/VREF3 (io) "IO or Reference Voltage for Bank 3", B4 IO/VREF7 (io) "IO or Reference Voltage for Bank 7", B6 IO/VREF7 (io) "IO or Reference Voltage for Bank 7", B10 IO/VREF7 (io) "IO or Reference Voltage for Bank 7", B20 IO/VREF6 (io) "IO or Reference Voltage for Bank 6", C2 IO/VREF7 (io) "IO or Reference Voltage for Bank 7", C15 IO/VREF6 (io) "IO or Reference Voltage for Bank 6", C17 IO/VREF6 (io) "IO or Reference Voltage for Bank 6", C25 IO/VREF6 (io) "IO or Reference Voltage for Bank 6", D3 IO/VREF0 (io) "IO or Reference Voltage for Bank 0", D5 GCTL3 (in) "Global Control signal 3", D7 GCLK3 (in) "Global Clock signal 3", D20 GCLK2 (in) "Global Clock signal 2", D21 IO/VREF6 (io) "IO or Reference Voltage for Bank 6", D22 GCTL2 (in) "Global Control signal 2", D25 TMS (in) "JTAG Test Mode Select", D26 TCLK (in) "JTAG Test Clock", E4 GCTL0 (in) "Global Control signal 0", E23 GCLK1 (in) "Global Clock signal 1", E25 TDI (in) "JTAG Test Data In", E26 TDO (out) "JTAG Test Data Out", G3 IO/VREF0 (io) "IO or Reference Voltage for Bank 0", G4 GCLK0 (in) "Global Clock signal 0", G23 GCTL1 (in) "Global Control signal 1", G24 IO/VREF5 (io) "IO or Reference Voltage for Bank 5", J2 IO/VREF0 (io) "IO or Reference Voltage for Bank 0", J24 IO/VREF5 (io) "IO or Reference Voltage for Bank 5", L24 IO/VREF5 (io) "IO or Reference Voltage for Bank 5", N2 IO/VREF0 (io) "IO or Reference Voltage for Bank 0", N26 IO/VREF5 (io) "IO or Reference Voltage for Bank 5", P2 IO/VREF1 (io) "IO or Reference Voltage for Bank 1", T3 IO/VREF1 (io) "IO or Reference Voltage for Bank 1", T25 IO/VREF4 (io) "IO or Reference Voltage for Bank 4", W3 IO/VREF1 (io) "IO or Reference Voltage for Bank 1", W25 IO/VREF4 (io) "IO or Reference Voltage for Bank 4"
part D pins: A1 GND (power) "Ground", A16 GND (power) "Ground", A26 GND (power) "Ground", AB1 VCCCNFG (power) "VCC for Configuration port", AC8 VCCIO2 (power) "VCC for I/O bank 2", AC9 VCCIO2 (power) "VCC for I/O bank 2", AC10 VCCCNFG (power) "VCC for Configuration port", AC12 VCCIO2 (power) "VCC for I/O bank 2", AC13 VCCIO2 (power) "VCC for I/O bank 2", AC14 VCCIO3 (power) "VCC for I/O bank 3", AC15 VCCIO3 (power) "VCC for I/O bank 3", AC17 VCC (power) "Operating Voltage", AC18 VCCIO3 (power) "VCC for I/O bank 3", AC19 VCCIO3 (power) "VCC for I/O bank 3", AF1 GND (power) "Ground", AF11 GND (power) "Ground", AF13 VCC (power) "Operating Voltage", AF26 GND (power) "Ground", D8 VCCIO7 (power) "VCC for I/O bank 7", D9 VCCIO7 (power) "VCC for I/O bank 7", D10 VCCIO7 (power) "VCC for I/O bank 7", D12 VCCIO7 (power) "VCC for I/O bank 7", D13 VCC (power) "Operating Voltage", D14 VCCIO6 (power) "VCC for I/O bank 6", D15 VCCIO6 (power) "VCC for I/O bank 6", D17 VCCPLL (power) "VCC for PLL", D18 VCCIO6 (power) "VCC for I/O bank 6", D19 VCCIO6 (power) "VCC for I/O bank 6", H4 VCCIO0 (power) "VCC for I/O bank 0", H23 VCCJTAG (power) "VCC for JTAG pins", J4 VCCIO0 (power) "VCC for I/O bank 0", J23 VCCIO5 (power) "VCC for I/O bank 5", K4 VCC (power) "Operating Voltage", K23 VCCIO5 (power) "VCC for I/O bank 5", L11 GND (power) "Ground", L12 GND (power) "Ground", L13 GND (power) "Ground", L14 GND (power) "Ground", L15 GND (power) "Ground", L16 GND (power) "Ground", M4 VCCIO0 (power) "VCC for I/O bank 0", M11 GND (power) "Ground", M12 GND (power) "Ground", M13 GND (power) "Ground", M14 GND (power) "Ground", M15 GND (power) "Ground", M16 GND (power) "Ground", M23 VCCIO5 (power) "VCC for I/O bank 5", N1 VCC (power) "Operating Voltage", N11 GND (power) "Ground", N12 GND (power) "Ground", N13 GND (power) "Ground", N14 GND (power) "Ground", N15 GND (power) "Ground", N16 GND (power) "Ground", P11 GND (power) "Ground", P12 GND (power) "Ground", P13 GND (power) "Ground", P14 GND (power) "Ground", P15 GND (power) "Ground", P16 GND (power) "Ground", P23 VCC (power) "Operating Voltage", P26 VCC (power) "Operating Voltage", R4 VCCIO1 (power) "VCC for I/O bank 1", R11 GND (power) "Ground", R12 GND (power) "Ground", R13 GND (power) "Ground", R14 GND (power) "Ground", R15 GND (power) "Ground", R16 GND (power) "Ground", R23 VCCIO4 (power) "VCC for I/O bank 4", T11 GND (power) "Ground", T12 GND (power) "Ground", T13 GND (power) "Ground", T14 GND (power) "Ground", T15 GND (power) "Ground", T16 GND (power) "Ground", U4 VCCPRG (power) "VCC for programming Self-Boot solution embedded boot PROM", U23 VCCPRG (power) "VCC for programming Self-Boot solution embedded boot PROM", V4 VCCIO1 (power) "VCC for I/O bank 1", V23 VCCIO4 (power) "VCC for I/O bank 4", W4 VCCIO1 (power) "VCC for I/O bank 1", W23 VCCIO4 (power) "VCC for I/O bank 4"

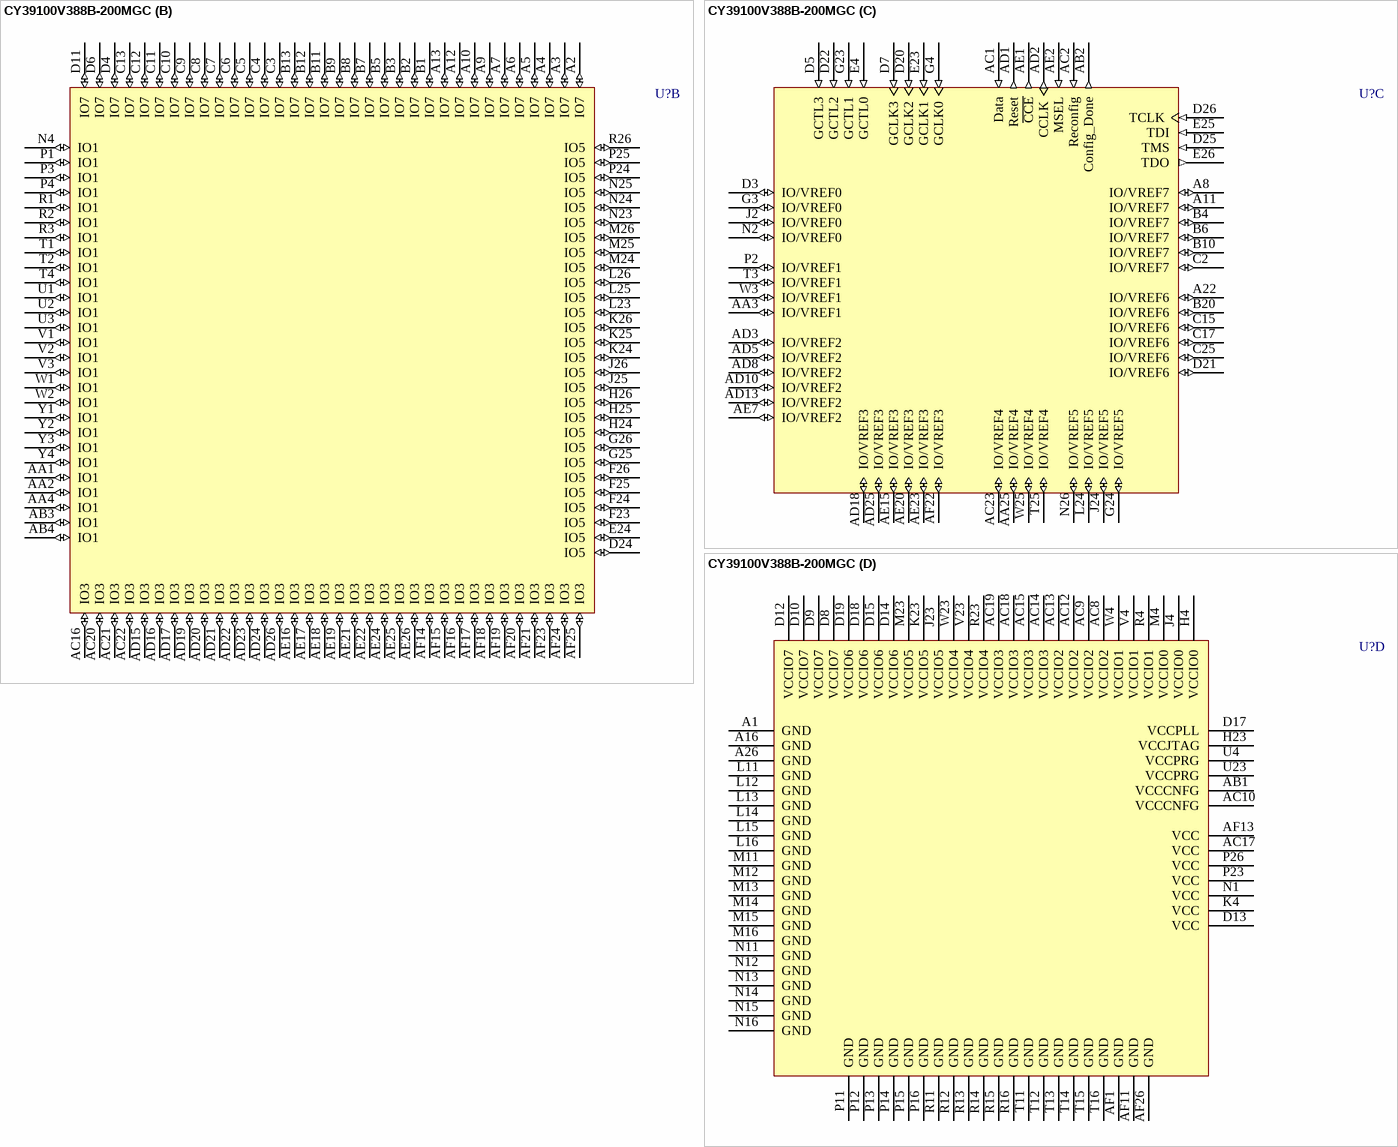
[diagram p34: symbol CY39100V388B-200MGC]

## CY39100V388B-200MGC
designator U?
Delta39K ISR CPLD, 3.3V/2.5V, 100K Gates, 200 MHz, 388-Ball BGA, Commercial Grade; Published: 6-Oct-2005; LatestRevisionDate: 13-Apr-2006; LatestRevisionNote: IPC-7351 Footprint Added.; DatasheetVersion: revI, Mar-2005; PackageVersion: Mar-2005; PackageReference: MG388; Publisher: Altium Limited; PackageDescription: 388-Ball Ball Grid Array 1.27 mm Pitch; ComponentLink1Description: Manufacturer Link; ComponentLink1URL: http://www.cypress.com/; ComponentLink2Description: Datasheet; ComponentLink2URL: http://www.cypress.com/portal/server.pt/gateway/PTARGS_0_601270_1522_209_0_43/http%3B/sjapp20.mis.cypress.com%3B7001/publishedcontent/publish/design_resources/datasheets/contents/cy39030v_5.pdf
footprint MG388 (BGA, 388-Leads, Body 35x35mm, Pitch 1.27mm)
3D model CY39100V388-MG388 (388-Ball Ball Grid Array 1.27 mm Pitch)
part A pins: A14 IO6 (io) "IO for Bank 6", A15 IO6 (io) "IO for Bank 6", A17 IO6 (io) "IO for Bank 6", A18 IO6 (io) "IO for Bank 6", A19 IO6 (io) "IO for Bank 6", A20 IO6 (io) "IO for Bank 6", A21 IO6 (io) "IO for Bank 6", A23 IO6 (io) "IO for Bank 6", A24 IO6 (io) "IO for Bank 6", A25 IO6 (io) "IO for Bank 6", AA23 IO4 (io) "IO for Bank 4", AA24 IO4 (io) "IO for Bank 4", AA26 IO4 (io) "IO for Bank 4", AB23 IO4 (io) "IO for Bank 4", AB24 IO4 (io) "IO for Bank 4", AB25 IO4 (io) "IO for Bank 4", AB26 IO4 (io) "IO for Bank 4", AC3 IO2 (io) "IO for Bank 2", AC4 IO2 (io) "IO for Bank 2", AC5 IO2 (io) "IO for Bank 2", AC6 IO2 (io) "IO for Bank 2", AC7 IO2 (io) "IO for Bank 2", AC11 IO2 (io) "IO for Bank 2", AC24 IO4 (io) "IO for Bank 4", AC25 IO4 (io) "IO for Bank 4", AC26 IO4 (io) "IO for Bank 4", AD4 IO2 (io) "IO for Bank 2", AD6 IO2 (io) "IO for Bank 2", AD7 IO2 (io) "IO for Bank 2", AD9 IO2 (io) "IO for Bank 2", AD11 IO2 (io) "IO for Bank 2", AD12 IO2 (io) "IO for Bank 2", AD14 IO2 (io) "IO for Bank 2", AE3 IO2 (io) "IO for Bank 2", AE4 IO2 (io) "IO for Bank 2", AE5 IO2 (io) "IO for Bank 2", AE6 IO2 (io) "IO for Bank 2", AE8 IO2 (io) "IO for Bank 2", AE9 IO2 (io) "IO for Bank 2", AE10 IO2 (io) "IO for Bank 2", AE11 IO2 (io) "IO for Bank 2", AE12 IO2 (io) "IO for Bank 2", AE13 IO2 (io) "IO for Bank 2", AE14 IO2 (io) "IO for Bank 2", AF2 IO2 (io) "IO for Bank 2", AF3 IO2 (io) "IO for Bank 2", AF4 IO2 (io) "IO for Bank 2", AF5 IO2 (io) "IO for Bank 2", AF6 IO2 (io) "IO for Bank 2", AF7 IO2 (io) "IO for Bank 2", AF8 IO2 (io) "IO for Bank 2", AF9 IO2 (io) "IO for Bank 2", AF10 IO2 (io) "IO for Bank 2", AF12 IO2 (io) "IO for Bank 2", B14 IO6 (io) "IO for Bank 6", B15 IO6 (io) "IO for Bank 6", B16 IO6 (io) "IO for Bank 6", B17 IO6/Lock (io) "IO in Bank 6 or PLL lock output signal", B18 IO6 (io) "IO for Bank 6", B19 IO6 (io) "IO for Bank 6", B21 IO6 (io) "IO for Bank 6", B22 IO6 (io) "IO for Bank 6", B23 IO6 (io) "IO for Bank 6", B24 IO6 (io) "IO for Bank 6", B25 IO6 (io) "IO for Bank 6", B26 IO6 (io) "IO for Bank 6", C1 IO0 (io) "IO for Bank 0", C14 IO6 (io) "IO for Bank 6", C16 IO6 (io) "IO for Bank 6", C18 IO6 (io) "IO for Bank 6", C19 IO6 (io) "IO for Bank 6", C20 IO6 (io) "IO for Bank 6", C21 IO6 (io) "IO for Bank 6", C22 IO6 (io) "IO for Bank 6", C23 IO6 (io) "IO for Bank 6", C24 IO6 (io) "IO for Bank 6", C26 IO6 (io) "IO for Bank 6", D1 IO0 (io) "IO for Bank 0", D2 IO0 (io) "IO for Bank 0", D16 IO6 (io) "IO for Bank 6", D23 IO6 (io) "IO for Bank 6", E1 IO0 (io) "IO for Bank 0", E2 IO0 (io) "IO for Bank 0", E3 IO0 (io) "IO for Bank 0", F1 IO0 (io) "IO for Bank 0", F2 IO0 (io) "IO for Bank 0", F3 IO0 (io) "IO for Bank 0", F4 IO0 (io) "IO for Bank 0", G1 IO0 (io) "IO for Bank 0", G2 IO0 (io) "IO for Bank 0", H1 IO0 (io) "IO for Bank 0", H2 IO0 (io) "IO for Bank 0", H3 IO0 (io) "IO for Bank 0", J1 IO0 (io) "IO for Bank 0", J3 IO0 (io) "IO for Bank 0", K1 IO0 (io) "IO for Bank 0", K2 IO0 (io) "IO for Bank 0", K3 IO0 (io) "IO for Bank 0", L1 IO0 (io) "IO for Bank 0", L2 IO0 (io) "IO for Bank 0", L3 IO0 (io) "IO for Bank 0", L4 IO0 (io) "IO for Bank 0", M1 IO0 (io) "IO for Bank 0", M2 IO0 (io) "IO for Bank 0", M3 IO0 (io) "IO for Bank 0", N3 IO0 (io) "IO for Bank 0", R24 IO4 (io) "IO for Bank 4", R25 IO4 (io) "IO for Bank 4", T23 IO4 (io) "IO for Bank 4", T24 IO4 (io) "IO for Bank 4", T26 IO4 (io) "IO for Bank 4", U24 IO4 (io) "IO for Bank 4", U25 IO4 (io) "IO for Bank 4", U26 IO4 (io) "IO for Bank 4", V24 IO4 (io) "IO for Bank 4", V25 IO4 (io) "IO for Bank 4", V26 IO4 (io) "IO for Bank 4", W24 IO4 (io) "IO for Bank 4", W26 IO4 (io) "IO for Bank 4", Y23 IO4 (io) "IO for Bank 4", Y24 IO4 (io) "IO for Bank 4", Y25 IO4 (io) "IO for Bank 4", Y26 IO4 (io) "IO for Bank 4"
part B pins: A2 IO7 (io) "IO for Bank 7", A3 IO7 (io) "IO for Bank 7", A4 IO7 (io) "IO for Bank 7", A5 IO7 (io) "IO for Bank 7", A6 IO7 (io) "IO for Bank 7", A7 IO7 (io) "IO for Bank 7", A9 IO7 (io) "IO for Bank 7", A10 IO7 (io) "IO for Bank 7", A12 IO7 (io) "IO for Bank 7", A13 IO7 (io) "IO for Bank 7", AA1 IO1 (io) "IO for Bank 1", AA2 IO1 (io) "IO for Bank 1", AA4 IO1 (io) "IO for Bank 1", AB3 IO1 (io) "IO for Bank 1", AB4 IO1 (io) "IO for Bank 1", AC16 IO3 (io) "IO for Bank 3", AC20 IO3 (io) "IO for Bank 3", AC21 IO3 (io) "IO for Bank 3", AC22 IO3 (io) "IO for Bank 3", AD15 IO3 (io) "IO for Bank 3", AD16 IO3 (io) "IO for Bank 3", AD17 IO3 (io) "IO for Bank 3", AD19 IO3 (io) "IO for Bank 3", AD20 IO3 (io) "IO for Bank 3", AD21 IO3 (io) "IO for Bank 3", AD22 IO3 (io) "IO for Bank 3", AD23 IO3 (io) "IO for Bank 3", AD24 IO3 (io) "IO for Bank 3", AD26 IO3 (io) "IO for Bank 3", AE16 IO3 (io) "IO for Bank 3", AE17 IO3 (io) "IO for Bank 3", AE18 IO3 (io) "IO for Bank 3", AE19 IO3 (io) "IO for Bank 3", AE21 IO3 (io) "IO for Bank 3", AE22 IO3 (io) "IO for Bank 3", AE24 IO3 (io) "IO for Bank 3", AE25 IO3 (io) "IO for Bank 3", AE26 IO3 (io) "IO for Bank 3", AF14 IO3 (io) "IO for Bank 3", AF15 IO3 (io) "IO for Bank 3", AF16 IO3 (io) "IO for Bank 3", AF17 IO3 (io) "IO for Bank 3", AF18 IO3 (io) "IO for Bank 3", AF19 IO3 (io) "IO for Bank 3", AF20 IO3 (io) "IO for Bank 3", AF21 IO3 (io) "IO for Bank 3", AF23 IO3 (io) "IO for Bank 3", AF24 IO3 (io) "IO for Bank 3", AF25 IO3 (io) "IO for Bank 3", B1 IO7 (io) "IO for Bank 7", B2 IO7 (io) "IO for Bank 7", B3 IO7 (io) "IO for Bank 7", B5 IO7 (io) "IO for Bank 7", B7 IO7 (io) "IO for Bank 7", B8 IO7 (io) "IO for Bank 7", B9 IO7 (io) "IO for Bank 7", B11 IO7 (io) "IO for Bank 7", B12 IO7 (io) "IO for Bank 7", B13 IO7 (io) "IO for Bank 7", C3 IO7 (io) "IO for Bank 7", C4 IO7 (io) "IO for Bank 7", C5 IO7 (io) "IO for Bank 7", C6 IO7 (io) "IO for Bank 7", C7 IO7 (io) "IO for Bank 7", C8 IO7 (io) "IO for Bank 7", C9 IO7 (io) "IO for Bank 7", C10 IO7 (io) "IO for Bank 7", C11 IO7 (io) "IO for Bank 7", C12 IO7 (io) "IO for Bank 7", C13 IO7 (io) "IO for Bank 7", D4 IO7 (io) "IO for Bank 7", D6 IO7 (io) "IO for Bank 7", D11 IO7 (io) "IO for Bank 7", D24 IO5 (io) "IO for Bank 5", E24 IO5 (io) "IO for Bank 5", F23 IO5 (io) "IO for Bank 5", F24 IO5 (io) "IO for Bank 5", F25 IO5 (io) "IO for Bank 5", F26 IO5 (io) "IO for Bank 5", G25 IO5 (io) "IO for Bank 5", G26 IO5 (io) "IO for Bank 5", H24 IO5 (io) "IO for Bank 5", H25 IO5 (io) "IO for Bank 5", H26 IO5 (io) "IO for Bank 5", J25 IO5 (io) "IO for Bank 5", J26 IO5 (io) "IO for Bank 5", K24 IO5 (io) "IO for Bank 5", K25 IO5 (io) "IO for Bank 5", K26 IO5 (io) "IO for Bank 5", L23 IO5 (io) "IO for Bank 5", L25 IO5 (io) "IO for Bank 5", L26 IO5 (io) "IO for Bank 5", M24 IO5 (io) "IO for Bank 5", M25 IO5 (io) "IO for Bank 5", M26 IO5 (io) "IO for Bank 5", N4 IO1 (io) "IO for Bank 1", N23 IO5 (io) "IO for Bank 5", N24 IO5 (io) "IO for Bank 5", N25 IO5 (io) "IO for Bank 5", P1 IO1 (io) "IO for Bank 1", P3 IO1 (io) "IO for Bank 1", P4 IO1 (io) "IO for Bank 1", P24 IO5 (io) "IO for Bank 5", P25 IO5 (io) "IO for Bank 5", R1 IO1 (io) "IO for Bank 1", R2 IO1 (io) "IO for Bank 1", R3 IO1 (io) "IO for Bank 1", R26 IO5 (io) "IO for Bank 5", T1 IO1 (io) "IO for Bank 1", T2 IO1 (io) "IO for Bank 1", T4 IO1 (io) "IO for Bank 1", U1 IO1 (io) "IO for Bank 1", U2 IO1 (io) "IO for Bank 1", U3 IO1 (io) "IO for Bank 1", V1 IO1 (io) "IO for Bank 1", V2 IO1 (io) "IO for Bank 1", V3 IO1 (io) "IO for Bank 1", W1 IO1 (io) "IO for Bank 1", W2 IO1 (io) "IO for Bank 1", Y1 IO1 (io) "IO for Bank 1", Y2 IO1 (io) "IO for Bank 1", Y3 IO1 (io) "IO for Bank 1", Y4 IO1 (io) "IO for Bank 1"
part C pins: A8 IO/VREF7 (io) "IO or Reference Voltage for Bank 7", A11 IO/VREF7 (io) "IO or Reference Voltage for Bank 7", A22 IO/VREF6 (io) "IO or Reference Voltage for Bank 6", AA3 IO/VREF1 (io) "IO or Reference Voltage for Bank 1", AA25 IO/VREF4 (io) "IO or Reference Voltage for Bank 4", AB2 Config_Done (out) "Flag indicating that configuration is complete", AC1 Data (in) "Pin to receive configuration data from the external boot PROM", AC2 Reconfig (in) "Pin to start configuration of Delta39K", AC23 IO/VREF4 (io) "IO or Reference Voltage for Bank 4", AD1 Reset (out) "Reset signal to interface with the external boot PROM", AD2 CCLK (out) "Configuration Clock for serial interface with the external boot PROM", AD3 IO/VREF2 (io) "IO or Reference Voltage for Bank 2", AD5 IO/VREF2 (io) "IO or Reference Voltage for Bank 2", AD8 IO/VREF2 (io) "IO or Reference Voltage for Bank 2", AD10 IO/VREF2 (io) "IO or Reference Voltage for Bank 2", AD13 IO/VREF2 (io) "IO or Reference Voltage for Bank 2", AD18 IO/VREF3 (io) "IO or Reference Voltage for Bank 3", AD25 IO/VREF3 (io) "IO or Reference Voltage for Bank 3", AE1 ~{CCE} (out) "Chip select for the external boot PROM (active low)", AE2 MSEL (in) "Mode Select Pin", AE7 IO/VREF2 (io) "IO or Reference Voltage for Bank 2", AE15 IO/VREF3 (io) "IO or Reference Voltage for Bank 3", AE20 IO/VREF3 (io) "IO or Reference Voltage for Bank 3", AE23 IO/VREF3 (io) "IO or Reference Voltage for Bank 3", AF22 IO/VREF3 (io) "IO or Reference Voltage for Bank 3", B4 IO/VREF7 (io) "IO or Reference Voltage for Bank 7", B6 IO/VREF7 (io) "IO or Reference Voltage for Bank 7", B10 IO/VREF7 (io) "IO or Reference Voltage for Bank 7", B20 IO/VREF6 (io) "IO or Reference Voltage for Bank 6", C2 IO/VREF7 (io) "IO or Reference Voltage for Bank 7", C15 IO/VREF6 (io) "IO or Reference Voltage for Bank 6", C17 IO/VREF6 (io) "IO or Reference Voltage for Bank 6", C25 IO/VREF6 (io) "IO or Reference Voltage for Bank 6", D3 IO/VREF0 (io) "IO or Reference Voltage for Bank 0", D5 GCTL3 (in) "Global Control signal 3", D7 GCLK3 (in) "Global Clock signal 3", D20 GCLK2 (in) "Global Clock signal 2", D21 IO/VREF6 (io) "IO or Reference Voltage for Bank 6", D22 GCTL2 (in) "Global Control signal 2", D25 TMS (in) "JTAG Test Mode Select", D26 TCLK (in) "JTAG Test Clock", E4 GCTL0 (in) "Global Control signal 0", E23 GCLK1 (in) "Global Clock signal 1", E25 TDI (in) "JTAG Test Data In", E26 TDO (out) "JTAG Test Data Out", G3 IO/VREF0 (io) "IO or Reference Voltage for Bank 0", G4 GCLK0 (in) "Global Clock signal 0", G23 GCTL1 (in) "Global Control signal 1", G24 IO/VREF5 (io) "IO or Reference Voltage for Bank 5", J2 IO/VREF0 (io) "IO or Reference Voltage for Bank 0", J24 IO/VREF5 (io) "IO or Reference Voltage for Bank 5", L24 IO/VREF5 (io) "IO or Reference Voltage for Bank 5", N2 IO/VREF0 (io) "IO or Reference Voltage for Bank 0", N26 IO/VREF5 (io) "IO or Reference Voltage for Bank 5", P2 IO/VREF1 (io) "IO or Reference Voltage for Bank 1", T3 IO/VREF1 (io) "IO or Reference Voltage for Bank 1", T25 IO/VREF4 (io) "IO or Reference Voltage for Bank 4", W3 IO/VREF1 (io) "IO or Reference Voltage for Bank 1", W25 IO/VREF4 (io) "IO or Reference Voltage for Bank 4"
part D pins: A1 GND (power) "Ground", A16 GND (power) "Ground", A26 GND (power) "Ground", AB1 VCCCNFG (power) "VCC for Configuration port", AC8 VCCIO2 (power) "VCC for I/O bank 2", AC9 VCCIO2 (power) "VCC for I/O bank 2", AC10 VCCCNFG (power) "VCC for Configuration port", AC12 VCCIO2 (power) "VCC for I/O bank 2", AC13 VCCIO2 (power) "VCC for I/O bank 2", AC14 VCCIO3 (power) "VCC for I/O bank 3", AC15 VCCIO3 (power) "VCC for I/O bank 3", AC17 VCC (power) "Operating Voltage", AC18 VCCIO3 (power) "VCC for I/O bank 3", AC19 VCCIO3 (power) "VCC for I/O bank 3", AF1 GND (power) "Ground", AF11 GND (power) "Ground", AF13 VCC (power) "Operating Voltage", AF26 GND (power) "Ground", D8 VCCIO7 (power) "VCC for I/O bank 7", D9 VCCIO7 (power) "VCC for I/O bank 7", D10 VCCIO7 (power) "VCC for I/O bank 7", D12 VCCIO7 (power) "VCC for I/O bank 7", D13 VCC (power) "Operating Voltage", D14 VCCIO6 (power) "VCC for I/O bank 6", D15 VCCIO6 (power) "VCC for I/O bank 6", D17 VCCPLL (power) "VCC for PLL", D18 VCCIO6 (power) "VCC for I/O bank 6", D19 VCCIO6 (power) "VCC for I/O bank 6", H4 VCCIO0 (power) "VCC for I/O bank 0", H23 VCCJTAG (power) "VCC for JTAG pins", J4 VCCIO0 (power) "VCC for I/O bank 0", J23 VCCIO5 (power) "VCC for I/O bank 5", K4 VCC (power) "Operating Voltage", K23 VCCIO5 (power) "VCC for I/O bank 5", L11 GND (power) "Ground", L12 GND (power) "Ground", L13 GND (power) "Ground", L14 GND (power) "Ground", L15 GND (power) "Ground", L16 GND (power) "Ground", M4 VCCIO0 (power) "VCC for I/O bank 0", M11 GND (power) "Ground", M12 GND (power) "Ground", M13 GND (power) "Ground", M14 GND (power) "Ground", M15 GND (power) "Ground", M16 GND (power) "Ground", M23 VCCIO5 (power) "VCC for I/O bank 5", N1 VCC (power) "Operating Voltage", N11 GND (power) "Ground", N12 GND (power) "Ground", N13 GND (power) "Ground", N14 GND (power) "Ground", N15 GND (power) "Ground", N16 GND (power) "Ground", P11 GND (power) "Ground", P12 GND (power) "Ground", P13 GND (power) "Ground", P14 GND (power) "Ground", P15 GND (power) "Ground", P16 GND (power) "Ground", P23 VCC (power) "Operating Voltage", P26 VCC (power) "Operating Voltage", R4 VCCIO1 (power) "VCC for I/O bank 1", R11 GND (power) "Ground", R12 GND (power) "Ground", R13 GND (power) "Ground", R14 GND (power) "Ground", R15 GND (power) "Ground", R16 GND (power) "Ground", R23 VCCIO4 (power) "VCC for I/O bank 4", T11 GND (power) "Ground", T12 GND (power) "Ground", T13 GND (power) "Ground", T14 GND (power) "Ground", T15 GND (power) "Ground", T16 GND (power) "Ground", U4 VCCPRG (power) "VCC for programming Self-Boot solution embedded boot PROM", U23 VCCPRG (power) "VCC for programming Self-Boot solution embedded boot PROM", V4 VCCIO1 (power) "VCC for I/O bank 1", V23 VCCIO4 (power) "VCC for I/O bank 4", W4 VCCIO1 (power) "VCC for I/O bank 1", W23 VCCIO4 (power) "VCC for I/O bank 4"

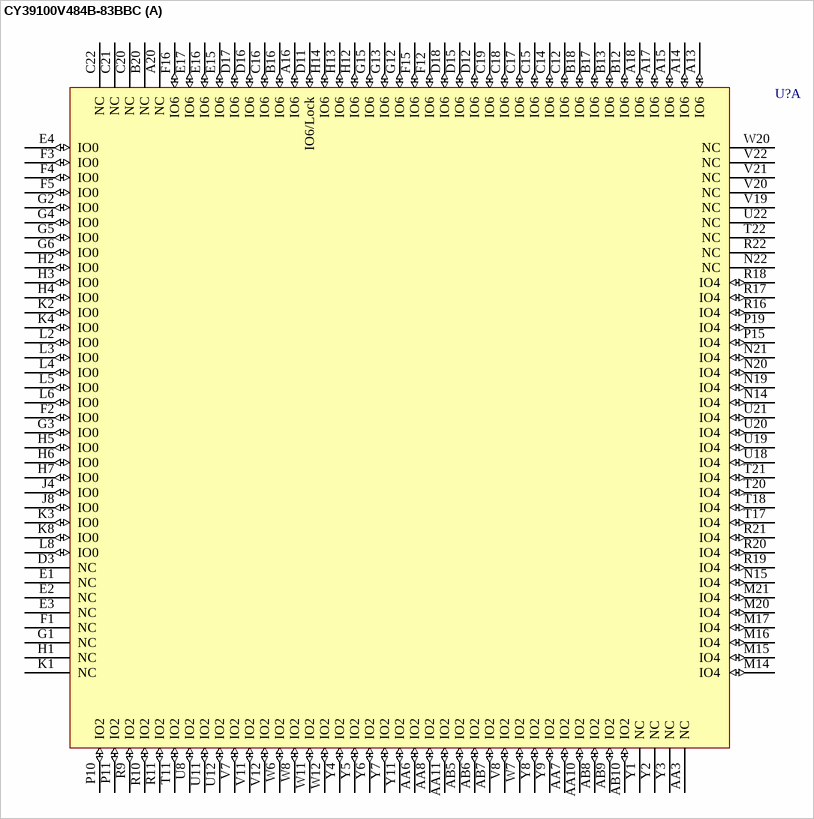
[diagram p35: symbol CY39100V484B-83BBC]

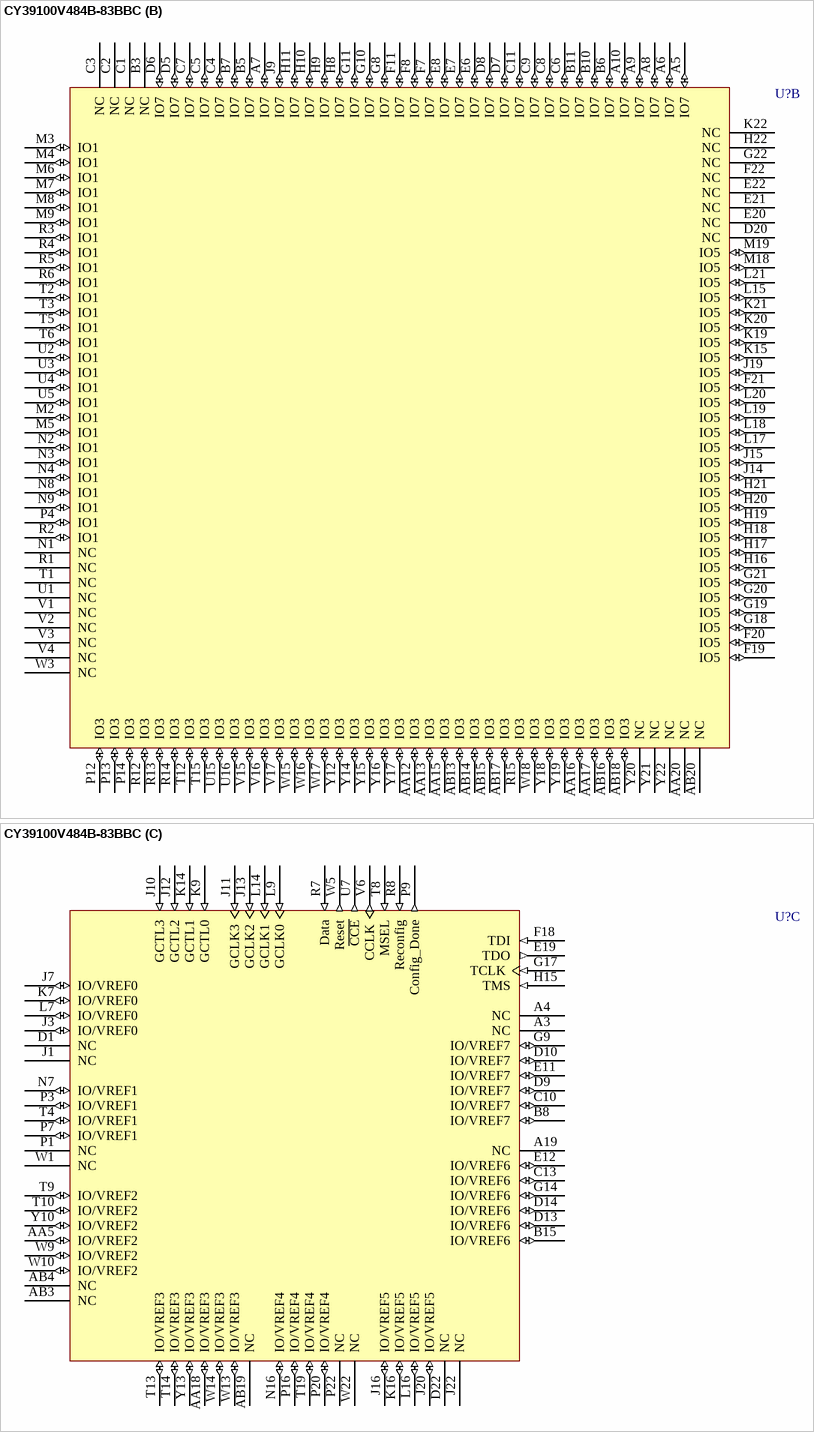
[diagram p36: symbol CY39100V484B-83BBC]

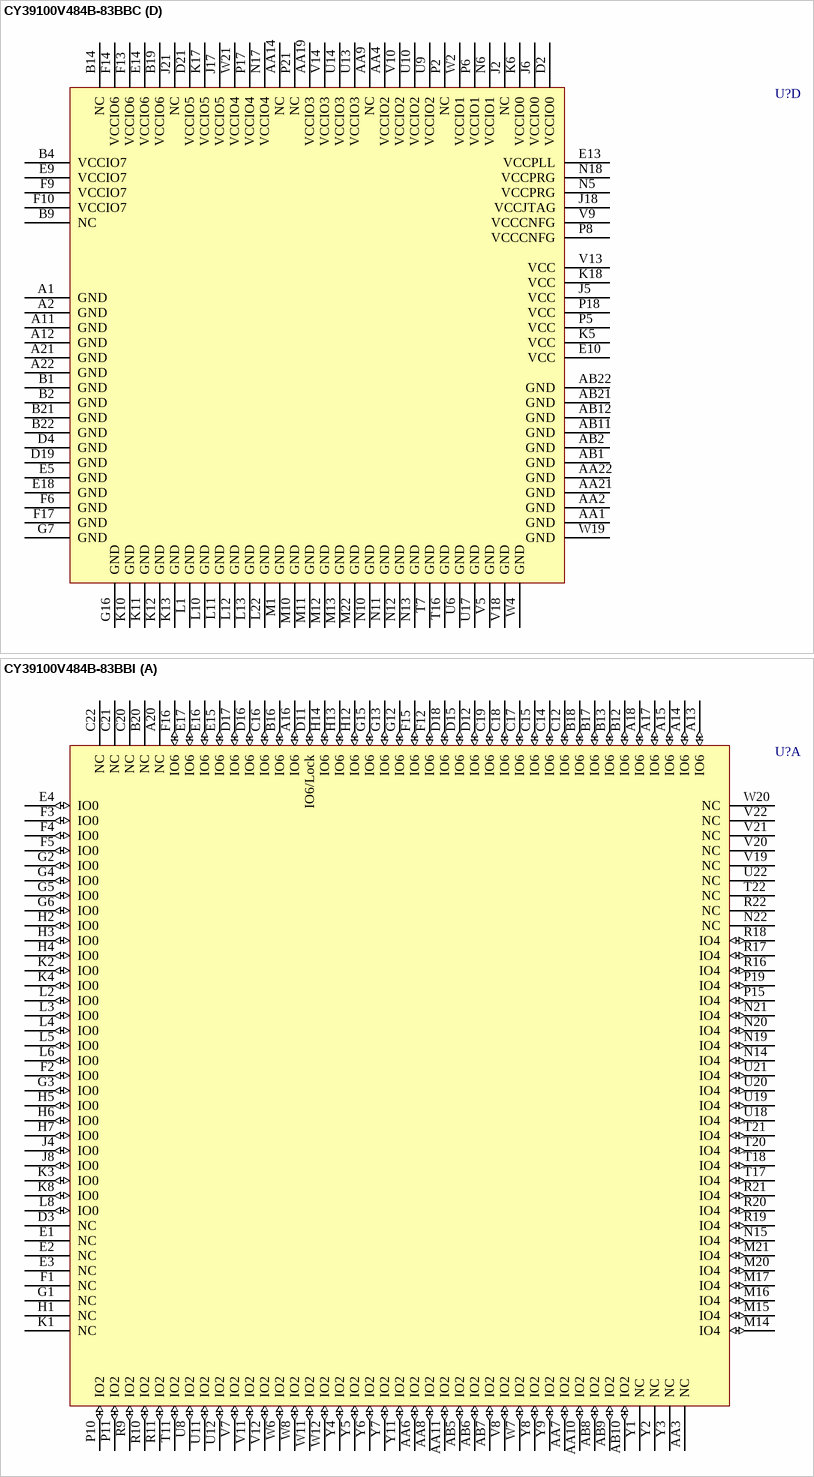
[diagram p37: symbols CY39100V484B-83BBC to CY39100V484B-83BBI]